# Altium integrated library ST Microcontroller 8-Bit.IntLib: 1326 symbols (part 39 of 45)
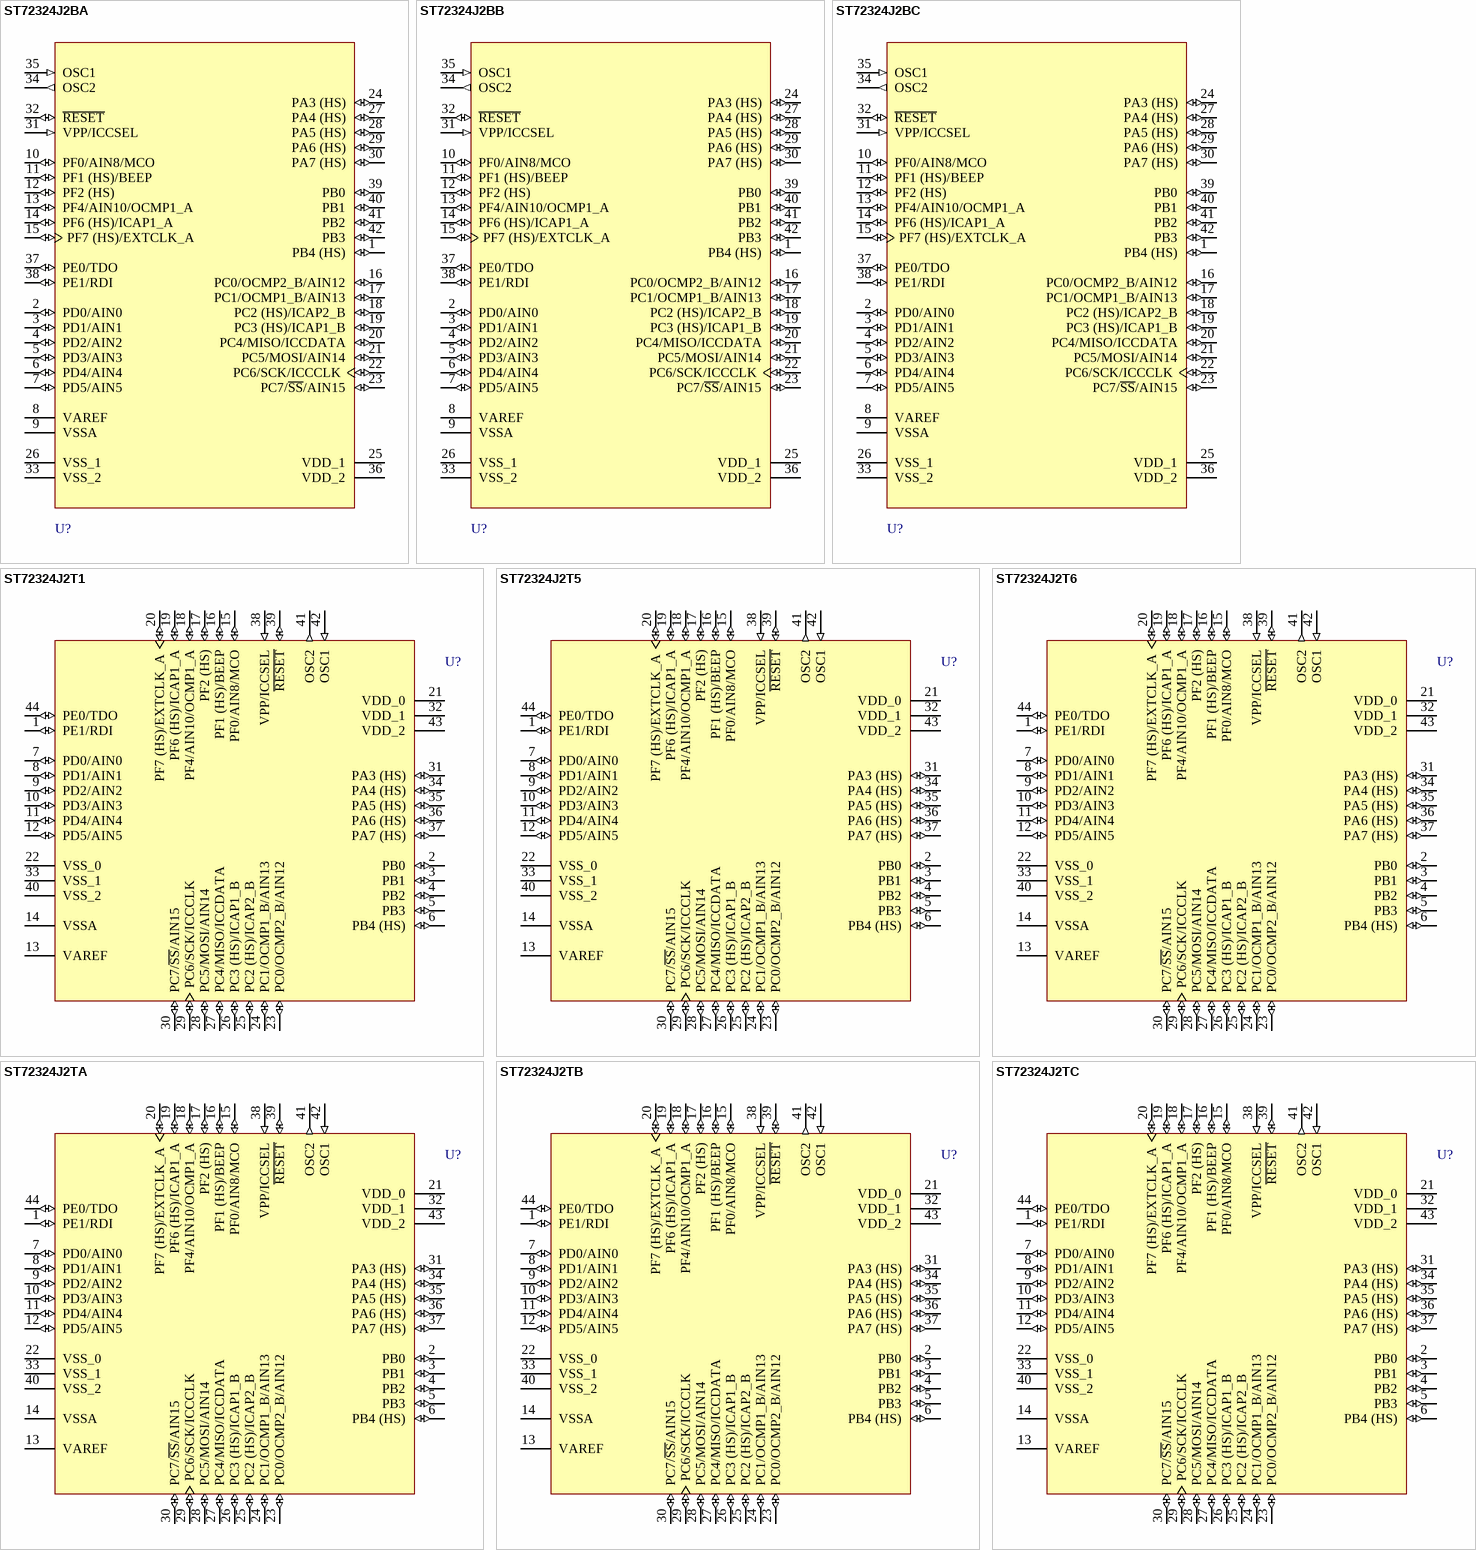
[diagram p205: symbols ST72324J2BA to ST72324J2TC]

## ST72324J2T6
designator U?
8-Bit 8k ROM MCU with Nested Interrupts, 384b RAM, 10-Bit ADC, Four Timers, SPI and SCI Interfaces, 44-Pin TQFP, Standard; Note: Pins 2-6, 15-17 and 31 are External Interrupt (EI) pins.; Published: 26-May-2004; LatestRevisionDate: 13-Apr-2006; LatestRevisionNote: IPC-7351 Footprint Added.; DatasheetVersion: rev1.9, Aug-2003; PackageVersion: Oct-2003; PackageReference: TQFP44; Publisher: Altium Limited; PackageDescription: 44-Pin Thin Plastic Quad Flat Pack 0.8 mm Pitch; ComponentLink1Description: Manufacturer Link; ComponentLink1URL: http://www.st.com/; ComponentLink2Description: Datasheet; ComponentLink2URL: http://www.st.com/stonline/products/literature/ds/8336/st72324.pdf
footprint TQFP44_N (Thin QFP, 44-Leads, Body 10x10mm, Pitch 0.8mm, IPC Medium Density)
footprint TQFP44_L (Thin QFP, 44-Leads, Body 10x10mm, Pitch 0.8mm, IPC High Density)
footprint TQFP44_M (Thin QFP, 44-Leads, Body 10x10mm, Pitch 0.8mm, IPC Low Density)
3D model ST72324-TQFP44 (44-Pin Thin Plastic Quad Flat Pack 0.8 mm Pitch)
pins: 1 PE1/RDI (io), 2 PB0 (io), 3 PB1 (io), 4 PB2 (io), 5 PB3 (io), 6 PB4 (HS) (io), 7 PD0/AIN0 (io), 8 PD1/AIN1 (io), 9 PD2/AIN2 (io), 10 PD3/AIN3 (io), 11 PD4/AIN4 (io), 12 PD5/AIN5 (io), 13 VAREF (power), 14 VSSA (power), 15 PF0/AIN8/MCO (io), 16 PF1 (HS)/BEEP (io), 17 PF2 (HS) (io), 18 PF4/AIN10/OCMP1_A (io), 19 PF6 (HS)/ICAP1_A (io), 20 PF7 (HS)/EXTCLK_A (io), 21 VDD_0 (power), 22 VSS_0 (power), 23 PC0/OCMP2_B/AIN12 (io), 24 PC1/OCMP1_B/AIN13 (io), 25 PC2 (HS)/ICAP2_B (io), 26 PC3 (HS)/ICAP1_B (io), 27 PC4/MISO/ICCDATA (io), 28 PC5/MOSI/AIN14 (io), 29 PC6/SCK/ICCCLK (io), 30 PC7/~{SS}/AIN15 (io), 31 PA3 (HS) (io), 32 VDD_1 (power), 33 VSS_1 (power), 34 PA4 (HS) (io), 35 PA5 (HS) (io), 36 PA6 (HS) (io), 37 PA7 (HS) (io), 38 VPP/ICCSEL (in), 39 ~{RESET} (io), 40 VSS_2 (power), 41 OSC2 (out), 42 OSC1 (in), 43 VDD_2 (power), 44 PE0/TDO (io)

## ST72324J2TA
designator U?
8-Bit 8k ROM MCU with Nested Interrupts, 384b RAM, 10-Bit ADC, Four Timers, SPI and SCI Interfaces, 44-Pin TQFP, Automotive; Note: Pins 2-6, 15-17 and 31 are External Interrupt (EI) pins.; Published: 26-May-2004; LatestRevisionDate: 13-Apr-2006; LatestRevisionNote: IPC-7351 Footprint Added.; DatasheetVersion: rev1.9, Aug-2003; PackageVersion: Oct-2003; PackageReference: TQFP44; Publisher: Altium Limited; PackageDescription: 44-Pin Thin Plastic Quad Flat Pack 0.8 mm Pitch; ComponentLink1Description: Manufacturer Link; ComponentLink1URL: http://www.st.com/; ComponentLink2Description: Datasheet; ComponentLink2URL: http://www.st.com/stonline/products/literature/ds/8336/st72324.pdf
footprint TQFP44_N (Thin QFP, 44-Leads, Body 10x10mm, Pitch 0.8mm, IPC Medium Density)
footprint TQFP44_L (Thin QFP, 44-Leads, Body 10x10mm, Pitch 0.8mm, IPC High Density)
footprint TQFP44_M (Thin QFP, 44-Leads, Body 10x10mm, Pitch 0.8mm, IPC Low Density)
3D model ST72324-TQFP44 (44-Pin Thin Plastic Quad Flat Pack 0.8 mm Pitch)
pins: 1 PE1/RDI (io), 2 PB0 (io), 3 PB1 (io), 4 PB2 (io), 5 PB3 (io), 6 PB4 (HS) (io), 7 PD0/AIN0 (io), 8 PD1/AIN1 (io), 9 PD2/AIN2 (io), 10 PD3/AIN3 (io), 11 PD4/AIN4 (io), 12 PD5/AIN5 (io), 13 VAREF (power), 14 VSSA (power), 15 PF0/AIN8/MCO (io), 16 PF1 (HS)/BEEP (io), 17 PF2 (HS) (io), 18 PF4/AIN10/OCMP1_A (io), 19 PF6 (HS)/ICAP1_A (io), 20 PF7 (HS)/EXTCLK_A (io), 21 VDD_0 (power), 22 VSS_0 (power), 23 PC0/OCMP2_B/AIN12 (io), 24 PC1/OCMP1_B/AIN13 (io), 25 PC2 (HS)/ICAP2_B (io), 26 PC3 (HS)/ICAP1_B (io), 27 PC4/MISO/ICCDATA (io), 28 PC5/MOSI/AIN14 (io), 29 PC6/SCK/ICCCLK (io), 30 PC7/~{SS}/AIN15 (io), 31 PA3 (HS) (io), 32 VDD_1 (power), 33 VSS_1 (power), 34 PA4 (HS) (io), 35 PA5 (HS) (io), 36 PA6 (HS) (io), 37 PA7 (HS) (io), 38 VPP/ICCSEL (in), 39 ~{RESET} (io), 40 VSS_2 (power), 41 OSC2 (out), 42 OSC1 (in), 43 VDD_2 (power), 44 PE0/TDO (io)

## ST72324J2TB
designator U?
8-Bit 8k ROM MCU with Nested Interrupts, 384b RAM, 10-Bit ADC, Four Timers, SPI and SCI Interfaces, 44-Pin TQFP, Automotive; Note: Pins 2-6, 15-17 and 31 are External Interrupt (EI) pins.; Published: 26-May-2004; LatestRevisionDate: 13-Apr-2006; LatestRevisionNote: IPC-7351 Footprint Added.; DatasheetVersion: rev1.9, Aug-2003; PackageVersion: Oct-2003; PackageReference: TQFP44; Publisher: Altium Limited; PackageDescription: 44-Pin Thin Plastic Quad Flat Pack 0.8 mm Pitch; ComponentLink1Description: Manufacturer Link; ComponentLink1URL: http://www.st.com/; ComponentLink2Description: Datasheet; ComponentLink2URL: http://www.st.com/stonline/products/literature/ds/8336/st72324.pdf
footprint TQFP44_N (Thin QFP, 44-Leads, Body 10x10mm, Pitch 0.8mm, IPC Medium Density)
footprint TQFP44_L (Thin QFP, 44-Leads, Body 10x10mm, Pitch 0.8mm, IPC High Density)
footprint TQFP44_M (Thin QFP, 44-Leads, Body 10x10mm, Pitch 0.8mm, IPC Low Density)
3D model ST72324-TQFP44 (44-Pin Thin Plastic Quad Flat Pack 0.8 mm Pitch)
pins: 1 PE1/RDI (io), 2 PB0 (io), 3 PB1 (io), 4 PB2 (io), 5 PB3 (io), 6 PB4 (HS) (io), 7 PD0/AIN0 (io), 8 PD1/AIN1 (io), 9 PD2/AIN2 (io), 10 PD3/AIN3 (io), 11 PD4/AIN4 (io), 12 PD5/AIN5 (io), 13 VAREF (power), 14 VSSA (power), 15 PF0/AIN8/MCO (io), 16 PF1 (HS)/BEEP (io), 17 PF2 (HS) (io), 18 PF4/AIN10/OCMP1_A (io), 19 PF6 (HS)/ICAP1_A (io), 20 PF7 (HS)/EXTCLK_A (io), 21 VDD_0 (power), 22 VSS_0 (power), 23 PC0/OCMP2_B/AIN12 (io), 24 PC1/OCMP1_B/AIN13 (io), 25 PC2 (HS)/ICAP2_B (io), 26 PC3 (HS)/ICAP1_B (io), 27 PC4/MISO/ICCDATA (io), 28 PC5/MOSI/AIN14 (io), 29 PC6/SCK/ICCCLK (io), 30 PC7/~{SS}/AIN15 (io), 31 PA3 (HS) (io), 32 VDD_1 (power), 33 VSS_1 (power), 34 PA4 (HS) (io), 35 PA5 (HS) (io), 36 PA6 (HS) (io), 37 PA7 (HS) (io), 38 VPP/ICCSEL (in), 39 ~{RESET} (io), 40 VSS_2 (power), 41 OSC2 (out), 42 OSC1 (in), 43 VDD_2 (power), 44 PE0/TDO (io)

## ST72324J2TC
designator U?
8-Bit 8k ROM MCU with Nested Interrupts, 384b RAM, 10-Bit ADC, Four Timers, SPI and SCI Interfaces, 44-Pin TQFP, Automotive; Note: Pins 2-6, 15-17 and 31 are External Interrupt (EI) pins.; Published: 26-May-2004; LatestRevisionDate: 13-Apr-2006; LatestRevisionNote: IPC-7351 Footprint Added.; DatasheetVersion: rev1.9, Aug-2003; PackageVersion: Oct-2003; PackageReference: TQFP44; Publisher: Altium Limited; PackageDescription: 44-Pin Thin Plastic Quad Flat Pack 0.8 mm Pitch; ComponentLink1Description: Manufacturer Link; ComponentLink1URL: http://www.st.com/; ComponentLink2Description: Datasheet; ComponentLink2URL: http://www.st.com/stonline/products/literature/ds/8336/st72324.pdf
footprint TQFP44_N (Thin QFP, 44-Leads, Body 10x10mm, Pitch 0.8mm, IPC Medium Density)
footprint TQFP44_L (Thin QFP, 44-Leads, Body 10x10mm, Pitch 0.8mm, IPC High Density)
footprint TQFP44_M (Thin QFP, 44-Leads, Body 10x10mm, Pitch 0.8mm, IPC Low Density)
3D model ST72324-TQFP44 (44-Pin Thin Plastic Quad Flat Pack 0.8 mm Pitch)
pins: 1 PE1/RDI (io), 2 PB0 (io), 3 PB1 (io), 4 PB2 (io), 5 PB3 (io), 6 PB4 (HS) (io), 7 PD0/AIN0 (io), 8 PD1/AIN1 (io), 9 PD2/AIN2 (io), 10 PD3/AIN3 (io), 11 PD4/AIN4 (io), 12 PD5/AIN5 (io), 13 VAREF (power), 14 VSSA (power), 15 PF0/AIN8/MCO (io), 16 PF1 (HS)/BEEP (io), 17 PF2 (HS) (io), 18 PF4/AIN10/OCMP1_A (io), 19 PF6 (HS)/ICAP1_A (io), 20 PF7 (HS)/EXTCLK_A (io), 21 VDD_0 (power), 22 VSS_0 (power), 23 PC0/OCMP2_B/AIN12 (io), 24 PC1/OCMP1_B/AIN13 (io), 25 PC2 (HS)/ICAP2_B (io), 26 PC3 (HS)/ICAP1_B (io), 27 PC4/MISO/ICCDATA (io), 28 PC5/MOSI/AIN14 (io), 29 PC6/SCK/ICCCLK (io), 30 PC7/~{SS}/AIN15 (io), 31 PA3 (HS) (io), 32 VDD_1 (power), 33 VSS_1 (power), 34 PA4 (HS) (io), 35 PA5 (HS) (io), 36 PA6 (HS) (io), 37 PA7 (HS) (io), 38 VPP/ICCSEL (in), 39 ~{RESET} (io), 40 VSS_2 (power), 41 OSC2 (out), 42 OSC1 (in), 43 VDD_2 (power), 44 PE0/TDO (io)

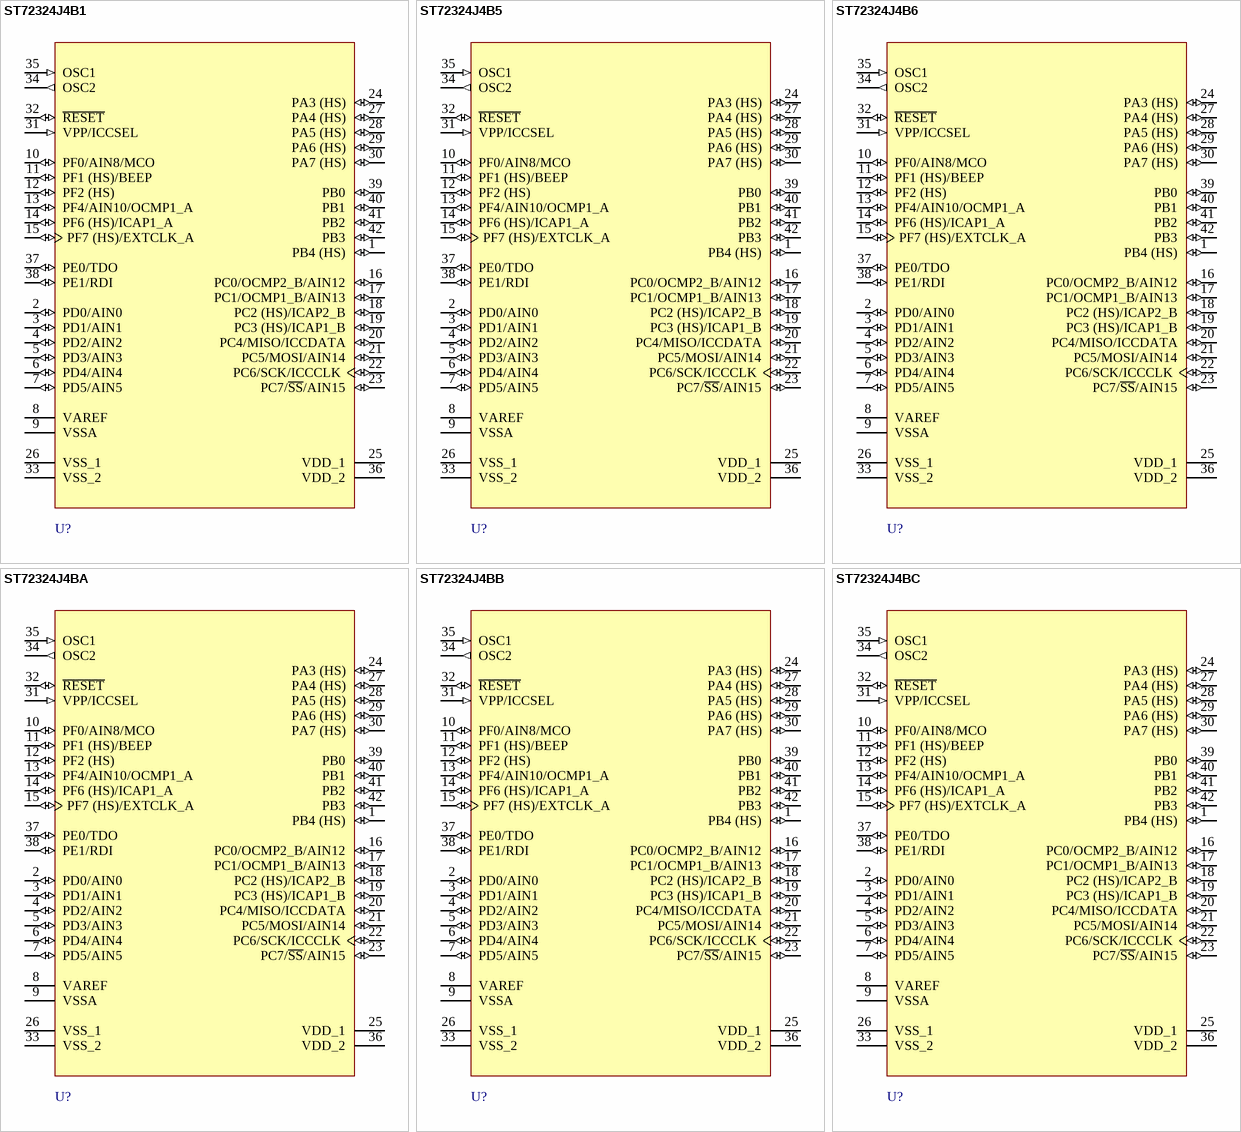
[diagram p137: symbols ST72324J4B1 to ST72324J4BC]

## ST72324J4B1
designator U?
8-Bit 16k ROM MCU with Nested Interrupts, 512b RAM, 10-Bit ADC, Four Timers, SPI and SCI Interfaces, 42-Pin PDIP, Standard; Note: Pins 1, 10-12, 24 and 39-42 are External Interrupt (EI) pins.; Published: 26-May-2004; LatestRevisionDate: 06-Jun-2005; LatestRevisionNote: Stylized 3D Model Added.; DatasheetVersion: rev1.9, Aug-2003; PackageVersion: Oct-2003; PackageReference: PSDIP42; Publisher: Altium Limited; PackageDescription: DIP, Plastic Shrink; 42 Leads; Row Spacing 15.24 mm; Pitch 1.78 mm; ComponentLink1Description: Manufacturer Link; ComponentLink1URL: http://www.st.com/; ComponentLink2Description: Datasheet; ComponentLink2URL: http://www.st.com/stonline/products/literature/ds/8336/st72324.pdf
footprint PSDIP42 (DIP, Plastic Shrink; 42 Leads; Row Spacing 15.24 mm; Pitch 1.78 mm)
3D model PSDIP42 (DIP, Plastic Shrink; 42 Leads; Row Spacing 15.24 mm; Pitch 1.78 mm)
pins: 1 PB4 (HS) (io), 2 PD0/AIN0 (io), 3 PD1/AIN1 (io), 4 PD2/AIN2 (io), 5 PD3/AIN3 (io), 6 PD4/AIN4 (io), 7 PD5/AIN5 (io), 8 VAREF (power), 9 VSSA (power), 10 PF0/AIN8/MCO (io), 11 PF1 (HS)/BEEP (io), 12 PF2 (HS) (io), 13 PF4/AIN10/OCMP1_A (io), 14 PF6 (HS)/ICAP1_A (io), 15 PF7 (HS)/EXTCLK_A (io), 16 PC0/OCMP2_B/AIN12 (io), 17 PC1/OCMP1_B/AIN13 (io), 18 PC2 (HS)/ICAP2_B (io), 19 PC3 (HS)/ICAP1_B (io), 20 PC4/MISO/ICCDATA (io), 21 PC5/MOSI/AIN14 (io), 22 PC6/SCK/ICCCLK (io), 23 PC7/~{SS}/AIN15 (io), 24 PA3 (HS) (io), 25 VDD_1 (power), 26 VSS_1 (power), 27 PA4 (HS) (io), 28 PA5 (HS) (io), 29 PA6 (HS) (io), 30 PA7 (HS) (io), 31 VPP/ICCSEL (in), 32 ~{RESET} (io), 33 VSS_2 (power), 34 OSC2 (out), 35 OSC1 (in), 36 VDD_2 (power), 37 PE0/TDO (io), 38 PE1/RDI (io), 39 PB0 (io), 40 PB1 (io), 41 PB2 (io), 42 PB3 (io)

## ST72324J4B5
designator U?
8-Bit 16k ROM MCU with Nested Interrupts, 512b RAM, 10-Bit ADC, Four Timers, SPI and SCI Interfaces, 42-Pin PDIP, Standard; Note: Pins 1, 10-12, 24 and 39-42 are External Interrupt (EI) pins.; Published: 26-May-2004; LatestRevisionDate: 06-Jun-2005; LatestRevisionNote: Stylized 3D Model Added.; DatasheetVersion: rev1.9, Aug-2003; PackageVersion: Oct-2003; PackageReference: PSDIP42; Publisher: Altium Limited; PackageDescription: DIP, Plastic Shrink; 42 Leads; Row Spacing 15.24 mm; Pitch 1.78 mm; ComponentLink1Description: Manufacturer Link; ComponentLink1URL: http://www.st.com/; ComponentLink2Description: Datasheet; ComponentLink2URL: http://www.st.com/stonline/products/literature/ds/8336/st72324.pdf
footprint PSDIP42 (DIP, Plastic Shrink; 42 Leads; Row Spacing 15.24 mm; Pitch 1.78 mm)
3D model PSDIP42 (DIP, Plastic Shrink; 42 Leads; Row Spacing 15.24 mm; Pitch 1.78 mm)
pins: 1 PB4 (HS) (io), 2 PD0/AIN0 (io), 3 PD1/AIN1 (io), 4 PD2/AIN2 (io), 5 PD3/AIN3 (io), 6 PD4/AIN4 (io), 7 PD5/AIN5 (io), 8 VAREF (power), 9 VSSA (power), 10 PF0/AIN8/MCO (io), 11 PF1 (HS)/BEEP (io), 12 PF2 (HS) (io), 13 PF4/AIN10/OCMP1_A (io), 14 PF6 (HS)/ICAP1_A (io), 15 PF7 (HS)/EXTCLK_A (io), 16 PC0/OCMP2_B/AIN12 (io), 17 PC1/OCMP1_B/AIN13 (io), 18 PC2 (HS)/ICAP2_B (io), 19 PC3 (HS)/ICAP1_B (io), 20 PC4/MISO/ICCDATA (io), 21 PC5/MOSI/AIN14 (io), 22 PC6/SCK/ICCCLK (io), 23 PC7/~{SS}/AIN15 (io), 24 PA3 (HS) (io), 25 VDD_1 (power), 26 VSS_1 (power), 27 PA4 (HS) (io), 28 PA5 (HS) (io), 29 PA6 (HS) (io), 30 PA7 (HS) (io), 31 VPP/ICCSEL (in), 32 ~{RESET} (io), 33 VSS_2 (power), 34 OSC2 (out), 35 OSC1 (in), 36 VDD_2 (power), 37 PE0/TDO (io), 38 PE1/RDI (io), 39 PB0 (io), 40 PB1 (io), 41 PB2 (io), 42 PB3 (io)

## ST72324J4B6
designator U?
8-Bit 16k ROM MCU with Nested Interrupts, 512b RAM, 10-Bit ADC, Four Timers, SPI and SCI Interfaces, 42-Pin PDIP, Standard; Note: Pins 1, 10-12, 24 and 39-42 are External Interrupt (EI) pins.; Published: 26-May-2004; LatestRevisionDate: 06-Jun-2005; LatestRevisionNote: Stylized 3D Model Added.; DatasheetVersion: rev1.9, Aug-2003; PackageVersion: Oct-2003; PackageReference: PSDIP42; Publisher: Altium Limited; PackageDescription: DIP, Plastic Shrink; 42 Leads; Row Spacing 15.24 mm; Pitch 1.78 mm; ComponentLink1Description: Manufacturer Link; ComponentLink1URL: http://www.st.com/; ComponentLink2Description: Datasheet; ComponentLink2URL: http://www.st.com/stonline/products/literature/ds/8336/st72324.pdf
footprint PSDIP42 (DIP, Plastic Shrink; 42 Leads; Row Spacing 15.24 mm; Pitch 1.78 mm)
3D model PSDIP42 (DIP, Plastic Shrink; 42 Leads; Row Spacing 15.24 mm; Pitch 1.78 mm)
pins: 1 PB4 (HS) (io), 2 PD0/AIN0 (io), 3 PD1/AIN1 (io), 4 PD2/AIN2 (io), 5 PD3/AIN3 (io), 6 PD4/AIN4 (io), 7 PD5/AIN5 (io), 8 VAREF (power), 9 VSSA (power), 10 PF0/AIN8/MCO (io), 11 PF1 (HS)/BEEP (io), 12 PF2 (HS) (io), 13 PF4/AIN10/OCMP1_A (io), 14 PF6 (HS)/ICAP1_A (io), 15 PF7 (HS)/EXTCLK_A (io), 16 PC0/OCMP2_B/AIN12 (io), 17 PC1/OCMP1_B/AIN13 (io), 18 PC2 (HS)/ICAP2_B (io), 19 PC3 (HS)/ICAP1_B (io), 20 PC4/MISO/ICCDATA (io), 21 PC5/MOSI/AIN14 (io), 22 PC6/SCK/ICCCLK (io), 23 PC7/~{SS}/AIN15 (io), 24 PA3 (HS) (io), 25 VDD_1 (power), 26 VSS_1 (power), 27 PA4 (HS) (io), 28 PA5 (HS) (io), 29 PA6 (HS) (io), 30 PA7 (HS) (io), 31 VPP/ICCSEL (in), 32 ~{RESET} (io), 33 VSS_2 (power), 34 OSC2 (out), 35 OSC1 (in), 36 VDD_2 (power), 37 PE0/TDO (io), 38 PE1/RDI (io), 39 PB0 (io), 40 PB1 (io), 41 PB2 (io), 42 PB3 (io)

## ST72324J4BA
designator U?
8-Bit 16k ROM MCU with Nested Interrupts, 512b RAM, 10-Bit ADC, Four Timers, SPI and SCI Interfaces, 42-Pin PDIP, Automotive; Note: Pins 1, 10-12, 24 and 39-42 are External Interrupt (EI) pins.; Published: 26-May-2004; LatestRevisionDate: 06-Jun-2005; LatestRevisionNote: Stylized 3D Model Added.; DatasheetVersion: rev1.9, Aug-2003; PackageVersion: Oct-2003; PackageReference: PSDIP42; Publisher: Altium Limited; PackageDescription: DIP, Plastic Shrink; 42 Leads; Row Spacing 15.24 mm; Pitch 1.78 mm; ComponentLink1Description: Manufacturer Link; ComponentLink1URL: http://www.st.com/; ComponentLink2Description: Datasheet; ComponentLink2URL: http://www.st.com/stonline/products/literature/ds/8336/st72324.pdf
footprint PSDIP42 (DIP, Plastic Shrink; 42 Leads; Row Spacing 15.24 mm; Pitch 1.78 mm)
3D model PSDIP42 (DIP, Plastic Shrink; 42 Leads; Row Spacing 15.24 mm; Pitch 1.78 mm)
pins: 1 PB4 (HS) (io), 2 PD0/AIN0 (io), 3 PD1/AIN1 (io), 4 PD2/AIN2 (io), 5 PD3/AIN3 (io), 6 PD4/AIN4 (io), 7 PD5/AIN5 (io), 8 VAREF (power), 9 VSSA (power), 10 PF0/AIN8/MCO (io), 11 PF1 (HS)/BEEP (io), 12 PF2 (HS) (io), 13 PF4/AIN10/OCMP1_A (io), 14 PF6 (HS)/ICAP1_A (io), 15 PF7 (HS)/EXTCLK_A (io), 16 PC0/OCMP2_B/AIN12 (io), 17 PC1/OCMP1_B/AIN13 (io), 18 PC2 (HS)/ICAP2_B (io), 19 PC3 (HS)/ICAP1_B (io), 20 PC4/MISO/ICCDATA (io), 21 PC5/MOSI/AIN14 (io), 22 PC6/SCK/ICCCLK (io), 23 PC7/~{SS}/AIN15 (io), 24 PA3 (HS) (io), 25 VDD_1 (power), 26 VSS_1 (power), 27 PA4 (HS) (io), 28 PA5 (HS) (io), 29 PA6 (HS) (io), 30 PA7 (HS) (io), 31 VPP/ICCSEL (in), 32 ~{RESET} (io), 33 VSS_2 (power), 34 OSC2 (out), 35 OSC1 (in), 36 VDD_2 (power), 37 PE0/TDO (io), 38 PE1/RDI (io), 39 PB0 (io), 40 PB1 (io), 41 PB2 (io), 42 PB3 (io)

## ST72324J4BB
designator U?
8-Bit 16k ROM MCU with Nested Interrupts, 512b RAM, 10-Bit ADC, Four Timers, SPI and SCI Interfaces, 42-Pin PDIP, Automotive; Note: Pins 1, 10-12, 24 and 39-42 are External Interrupt (EI) pins.; Published: 26-May-2004; LatestRevisionDate: 06-Jun-2005; LatestRevisionNote: Stylized 3D Model Added.; DatasheetVersion: rev1.9, Aug-2003; PackageVersion: Oct-2003; PackageReference: PSDIP42; Publisher: Altium Limited; PackageDescription: DIP, Plastic Shrink; 42 Leads; Row Spacing 15.24 mm; Pitch 1.78 mm; ComponentLink1Description: Manufacturer Link; ComponentLink1URL: http://www.st.com/; ComponentLink2Description: Datasheet; ComponentLink2URL: http://www.st.com/stonline/products/literature/ds/8336/st72324.pdf
footprint PSDIP42 (DIP, Plastic Shrink; 42 Leads; Row Spacing 15.24 mm; Pitch 1.78 mm)
3D model PSDIP42 (DIP, Plastic Shrink; 42 Leads; Row Spacing 15.24 mm; Pitch 1.78 mm)
pins: 1 PB4 (HS) (io), 2 PD0/AIN0 (io), 3 PD1/AIN1 (io), 4 PD2/AIN2 (io), 5 PD3/AIN3 (io), 6 PD4/AIN4 (io), 7 PD5/AIN5 (io), 8 VAREF (power), 9 VSSA (power), 10 PF0/AIN8/MCO (io), 11 PF1 (HS)/BEEP (io), 12 PF2 (HS) (io), 13 PF4/AIN10/OCMP1_A (io), 14 PF6 (HS)/ICAP1_A (io), 15 PF7 (HS)/EXTCLK_A (io), 16 PC0/OCMP2_B/AIN12 (io), 17 PC1/OCMP1_B/AIN13 (io), 18 PC2 (HS)/ICAP2_B (io), 19 PC3 (HS)/ICAP1_B (io), 20 PC4/MISO/ICCDATA (io), 21 PC5/MOSI/AIN14 (io), 22 PC6/SCK/ICCCLK (io), 23 PC7/~{SS}/AIN15 (io), 24 PA3 (HS) (io), 25 VDD_1 (power), 26 VSS_1 (power), 27 PA4 (HS) (io), 28 PA5 (HS) (io), 29 PA6 (HS) (io), 30 PA7 (HS) (io), 31 VPP/ICCSEL (in), 32 ~{RESET} (io), 33 VSS_2 (power), 34 OSC2 (out), 35 OSC1 (in), 36 VDD_2 (power), 37 PE0/TDO (io), 38 PE1/RDI (io), 39 PB0 (io), 40 PB1 (io), 41 PB2 (io), 42 PB3 (io)

## ST72324J4BC
designator U?
8-Bit 16k ROM MCU with Nested Interrupts, 512b RAM, 10-Bit ADC, Four Timers, SPI and SCI Interfaces, 42-Pin PDIP, Automotive; Note: Pins 1, 10-12, 24 and 39-42 are External Interrupt (EI) pins.; Published: 26-May-2004; LatestRevisionDate: 06-Jun-2005; LatestRevisionNote: Stylized 3D Model Added.; DatasheetVersion: rev1.9, Aug-2003; PackageVersion: Oct-2003; PackageReference: PSDIP42; Publisher: Altium Limited; PackageDescription: DIP, Plastic Shrink; 42 Leads; Row Spacing 15.24 mm; Pitch 1.78 mm; ComponentLink1Description: Manufacturer Link; ComponentLink1URL: http://www.st.com/; ComponentLink2Description: Datasheet; ComponentLink2URL: http://www.st.com/stonline/products/literature/ds/8336/st72324.pdf
footprint PSDIP42 (DIP, Plastic Shrink; 42 Leads; Row Spacing 15.24 mm; Pitch 1.78 mm)
3D model PSDIP42 (DIP, Plastic Shrink; 42 Leads; Row Spacing 15.24 mm; Pitch 1.78 mm)
pins: 1 PB4 (HS) (io), 2 PD0/AIN0 (io), 3 PD1/AIN1 (io), 4 PD2/AIN2 (io), 5 PD3/AIN3 (io), 6 PD4/AIN4 (io), 7 PD5/AIN5 (io), 8 VAREF (power), 9 VSSA (power), 10 PF0/AIN8/MCO (io), 11 PF1 (HS)/BEEP (io), 12 PF2 (HS) (io), 13 PF4/AIN10/OCMP1_A (io), 14 PF6 (HS)/ICAP1_A (io), 15 PF7 (HS)/EXTCLK_A (io), 16 PC0/OCMP2_B/AIN12 (io), 17 PC1/OCMP1_B/AIN13 (io), 18 PC2 (HS)/ICAP2_B (io), 19 PC3 (HS)/ICAP1_B (io), 20 PC4/MISO/ICCDATA (io), 21 PC5/MOSI/AIN14 (io), 22 PC6/SCK/ICCCLK (io), 23 PC7/~{SS}/AIN15 (io), 24 PA3 (HS) (io), 25 VDD_1 (power), 26 VSS_1 (power), 27 PA4 (HS) (io), 28 PA5 (HS) (io), 29 PA6 (HS) (io), 30 PA7 (HS) (io), 31 VPP/ICCSEL (in), 32 ~{RESET} (io), 33 VSS_2 (power), 34 OSC2 (out), 35 OSC1 (in), 36 VDD_2 (power), 37 PE0/TDO (io), 38 PE1/RDI (io), 39 PB0 (io), 40 PB1 (io), 41 PB2 (io), 42 PB3 (io)

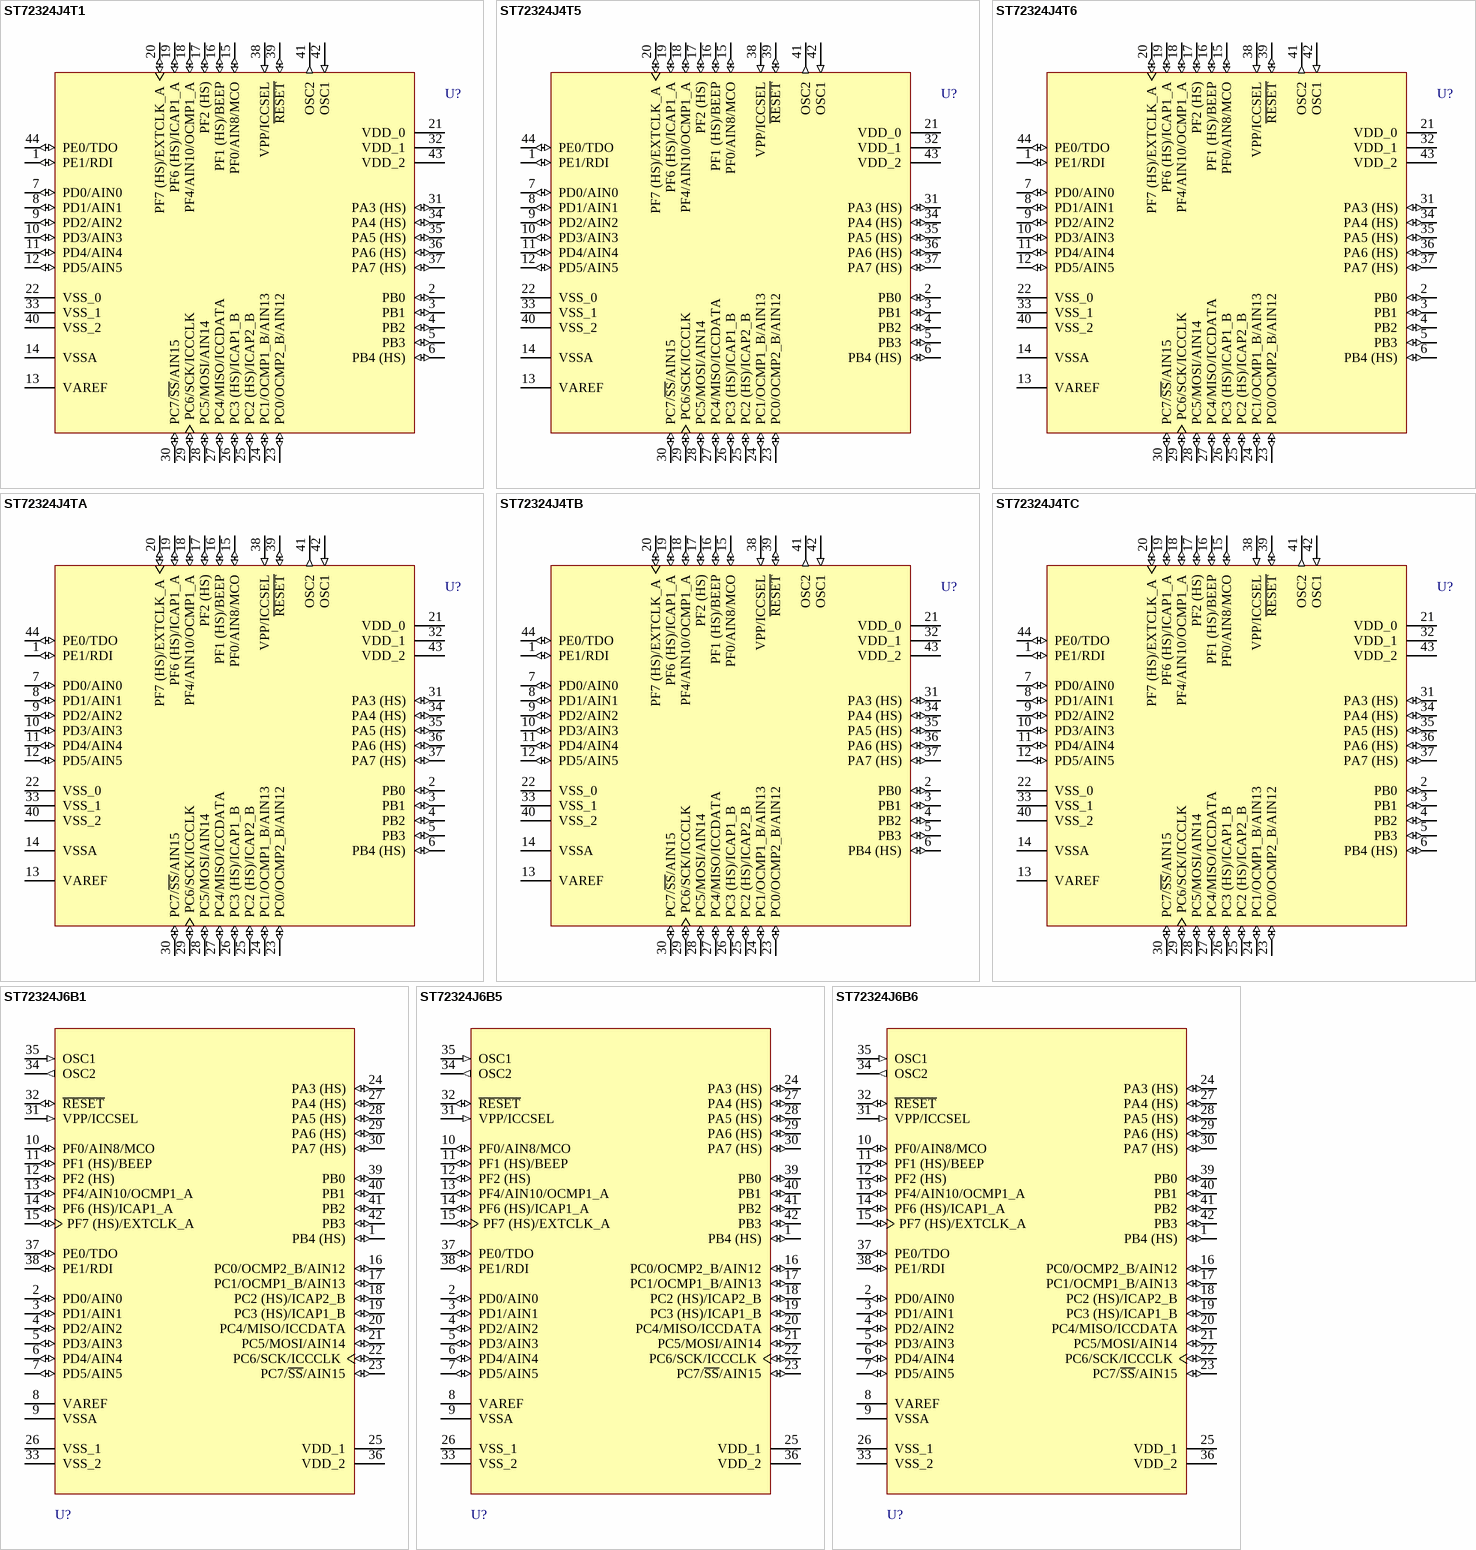
[diagram p138: symbols ST72324J4T1 to ST72324J6B6]

## ST72324J4T1
designator U?
8-Bit 16k ROM MCU with Nested Interrupts, 512b RAM, 10-Bit ADC, Four Timers, SPI and SCI Interfaces, 44-Pin TQFP, Standard; Note: Pins 2-6, 15-17 and 31 are External Interrupt (EI) pins.; Published: 26-May-2004; LatestRevisionDate: 13-Apr-2006; LatestRevisionNote: IPC-7351 Footprint Added.; DatasheetVersion: rev1.9, Aug-2003; PackageVersion: Oct-2003; PackageReference: TQFP44; Publisher: Altium Limited; PackageDescription: 44-Pin Thin Plastic Quad Flat Pack 0.8 mm Pitch; ComponentLink1Description: Manufacturer Link; ComponentLink1URL: http://www.st.com/; ComponentLink2Description: Datasheet; ComponentLink2URL: http://www.st.com/stonline/products/literature/ds/8336/st72324.pdf
footprint TQFP44_N (Thin QFP, 44-Leads, Body 10x10mm, Pitch 0.8mm, IPC Medium Density)
footprint TQFP44_L (Thin QFP, 44-Leads, Body 10x10mm, Pitch 0.8mm, IPC High Density)
footprint TQFP44_M (Thin QFP, 44-Leads, Body 10x10mm, Pitch 0.8mm, IPC Low Density)
3D model ST72324-TQFP44 (44-Pin Thin Plastic Quad Flat Pack 0.8 mm Pitch)
pins: 1 PE1/RDI (io), 2 PB0 (io), 3 PB1 (io), 4 PB2 (io), 5 PB3 (io), 6 PB4 (HS) (io), 7 PD0/AIN0 (io), 8 PD1/AIN1 (io), 9 PD2/AIN2 (io), 10 PD3/AIN3 (io), 11 PD4/AIN4 (io), 12 PD5/AIN5 (io), 13 VAREF (power), 14 VSSA (power), 15 PF0/AIN8/MCO (io), 16 PF1 (HS)/BEEP (io), 17 PF2 (HS) (io), 18 PF4/AIN10/OCMP1_A (io), 19 PF6 (HS)/ICAP1_A (io), 20 PF7 (HS)/EXTCLK_A (io), 21 VDD_0 (power), 22 VSS_0 (power), 23 PC0/OCMP2_B/AIN12 (io), 24 PC1/OCMP1_B/AIN13 (io), 25 PC2 (HS)/ICAP2_B (io), 26 PC3 (HS)/ICAP1_B (io), 27 PC4/MISO/ICCDATA (io), 28 PC5/MOSI/AIN14 (io), 29 PC6/SCK/ICCCLK (io), 30 PC7/~{SS}/AIN15 (io), 31 PA3 (HS) (io), 32 VDD_1 (power), 33 VSS_1 (power), 34 PA4 (HS) (io), 35 PA5 (HS) (io), 36 PA6 (HS) (io), 37 PA7 (HS) (io), 38 VPP/ICCSEL (in), 39 ~{RESET} (io), 40 VSS_2 (power), 41 OSC2 (out), 42 OSC1 (in), 43 VDD_2 (power), 44 PE0/TDO (io)

## ST72324J4T5
designator U?
8-Bit 16k ROM MCU with Nested Interrupts, 512b RAM, 10-Bit ADC, Four Timers, SPI and SCI Interfaces, 44-Pin TQFP, Standard; Note: Pins 2-6, 15-17 and 31 are External Interrupt (EI) pins.; Published: 26-May-2004; LatestRevisionDate: 13-Apr-2006; LatestRevisionNote: IPC-7351 Footprint Added.; DatasheetVersion: rev1.9, Aug-2003; PackageVersion: Oct-2003; PackageReference: TQFP44; Publisher: Altium Limited; PackageDescription: 44-Pin Thin Plastic Quad Flat Pack 0.8 mm Pitch; ComponentLink1Description: Manufacturer Link; ComponentLink1URL: http://www.st.com/; ComponentLink2Description: Datasheet; ComponentLink2URL: http://www.st.com/stonline/products/literature/ds/8336/st72324.pdf
footprint TQFP44_N (Thin QFP, 44-Leads, Body 10x10mm, Pitch 0.8mm, IPC Medium Density)
footprint TQFP44_L (Thin QFP, 44-Leads, Body 10x10mm, Pitch 0.8mm, IPC High Density)
footprint TQFP44_M (Thin QFP, 44-Leads, Body 10x10mm, Pitch 0.8mm, IPC Low Density)
3D model ST72324-TQFP44 (44-Pin Thin Plastic Quad Flat Pack 0.8 mm Pitch)
pins: 1 PE1/RDI (io), 2 PB0 (io), 3 PB1 (io), 4 PB2 (io), 5 PB3 (io), 6 PB4 (HS) (io), 7 PD0/AIN0 (io), 8 PD1/AIN1 (io), 9 PD2/AIN2 (io), 10 PD3/AIN3 (io), 11 PD4/AIN4 (io), 12 PD5/AIN5 (io), 13 VAREF (power), 14 VSSA (power), 15 PF0/AIN8/MCO (io), 16 PF1 (HS)/BEEP (io), 17 PF2 (HS) (io), 18 PF4/AIN10/OCMP1_A (io), 19 PF6 (HS)/ICAP1_A (io), 20 PF7 (HS)/EXTCLK_A (io), 21 VDD_0 (power), 22 VSS_0 (power), 23 PC0/OCMP2_B/AIN12 (io), 24 PC1/OCMP1_B/AIN13 (io), 25 PC2 (HS)/ICAP2_B (io), 26 PC3 (HS)/ICAP1_B (io), 27 PC4/MISO/ICCDATA (io), 28 PC5/MOSI/AIN14 (io), 29 PC6/SCK/ICCCLK (io), 30 PC7/~{SS}/AIN15 (io), 31 PA3 (HS) (io), 32 VDD_1 (power), 33 VSS_1 (power), 34 PA4 (HS) (io), 35 PA5 (HS) (io), 36 PA6 (HS) (io), 37 PA7 (HS) (io), 38 VPP/ICCSEL (in), 39 ~{RESET} (io), 40 VSS_2 (power), 41 OSC2 (out), 42 OSC1 (in), 43 VDD_2 (power), 44 PE0/TDO (io)

## ST72324J4T6
designator U?
8-Bit 16k ROM MCU with Nested Interrupts, 512b RAM, 10-Bit ADC, Four Timers, SPI and SCI Interfaces, 44-Pin TQFP, Standard; Note: Pins 2-6, 15-17 and 31 are External Interrupt (EI) pins.; Published: 26-May-2004; LatestRevisionDate: 13-Apr-2006; LatestRevisionNote: IPC-7351 Footprint Added.; DatasheetVersion: rev1.9, Aug-2003; PackageVersion: Oct-2003; PackageReference: TQFP44; Publisher: Altium Limited; PackageDescription: 44-Pin Thin Plastic Quad Flat Pack 0.8 mm Pitch; ComponentLink1Description: Manufacturer Link; ComponentLink1URL: http://www.st.com/; ComponentLink2Description: Datasheet; ComponentLink2URL: http://www.st.com/stonline/products/literature/ds/8336/st72324.pdf
footprint TQFP44_N (Thin QFP, 44-Leads, Body 10x10mm, Pitch 0.8mm, IPC Medium Density)
footprint TQFP44_L (Thin QFP, 44-Leads, Body 10x10mm, Pitch 0.8mm, IPC High Density)
footprint TQFP44_M (Thin QFP, 44-Leads, Body 10x10mm, Pitch 0.8mm, IPC Low Density)
3D model ST72324-TQFP44 (44-Pin Thin Plastic Quad Flat Pack 0.8 mm Pitch)
pins: 1 PE1/RDI (io), 2 PB0 (io), 3 PB1 (io), 4 PB2 (io), 5 PB3 (io), 6 PB4 (HS) (io), 7 PD0/AIN0 (io), 8 PD1/AIN1 (io), 9 PD2/AIN2 (io), 10 PD3/AIN3 (io), 11 PD4/AIN4 (io), 12 PD5/AIN5 (io), 13 VAREF (power), 14 VSSA (power), 15 PF0/AIN8/MCO (io), 16 PF1 (HS)/BEEP (io), 17 PF2 (HS) (io), 18 PF4/AIN10/OCMP1_A (io), 19 PF6 (HS)/ICAP1_A (io), 20 PF7 (HS)/EXTCLK_A (io), 21 VDD_0 (power), 22 VSS_0 (power), 23 PC0/OCMP2_B/AIN12 (io), 24 PC1/OCMP1_B/AIN13 (io), 25 PC2 (HS)/ICAP2_B (io), 26 PC3 (HS)/ICAP1_B (io), 27 PC4/MISO/ICCDATA (io), 28 PC5/MOSI/AIN14 (io), 29 PC6/SCK/ICCCLK (io), 30 PC7/~{SS}/AIN15 (io), 31 PA3 (HS) (io), 32 VDD_1 (power), 33 VSS_1 (power), 34 PA4 (HS) (io), 35 PA5 (HS) (io), 36 PA6 (HS) (io), 37 PA7 (HS) (io), 38 VPP/ICCSEL (in), 39 ~{RESET} (io), 40 VSS_2 (power), 41 OSC2 (out), 42 OSC1 (in), 43 VDD_2 (power), 44 PE0/TDO (io)

## ST72324J4TA
designator U?
8-Bit 16k ROM MCU with Nested Interrupts, 512b RAM, 10-Bit ADC, Four Timers, SPI and SCI Interfaces, 44-Pin TQFP, Automotive; Note: Pins 2-6, 15-17 and 31 are External Interrupt (EI) pins.; Published: 26-May-2004; LatestRevisionDate: 13-Apr-2006; LatestRevisionNote: IPC-7351 Footprint Added.; DatasheetVersion: rev1.9, Aug-2003; PackageVersion: Oct-2003; PackageReference: TQFP44; Publisher: Altium Limited; PackageDescription: 44-Pin Thin Plastic Quad Flat Pack 0.8 mm Pitch; ComponentLink1Description: Manufacturer Link; ComponentLink1URL: http://www.st.com/; ComponentLink2Description: Datasheet; ComponentLink2URL: http://www.st.com/stonline/products/literature/ds/8336/st72324.pdf
footprint TQFP44_N (Thin QFP, 44-Leads, Body 10x10mm, Pitch 0.8mm, IPC Medium Density)
footprint TQFP44_L (Thin QFP, 44-Leads, Body 10x10mm, Pitch 0.8mm, IPC High Density)
footprint TQFP44_M (Thin QFP, 44-Leads, Body 10x10mm, Pitch 0.8mm, IPC Low Density)
3D model ST72324-TQFP44 (44-Pin Thin Plastic Quad Flat Pack 0.8 mm Pitch)
pins: 1 PE1/RDI (io), 2 PB0 (io), 3 PB1 (io), 4 PB2 (io), 5 PB3 (io), 6 PB4 (HS) (io), 7 PD0/AIN0 (io), 8 PD1/AIN1 (io), 9 PD2/AIN2 (io), 10 PD3/AIN3 (io), 11 PD4/AIN4 (io), 12 PD5/AIN5 (io), 13 VAREF (power), 14 VSSA (power), 15 PF0/AIN8/MCO (io), 16 PF1 (HS)/BEEP (io), 17 PF2 (HS) (io), 18 PF4/AIN10/OCMP1_A (io), 19 PF6 (HS)/ICAP1_A (io), 20 PF7 (HS)/EXTCLK_A (io), 21 VDD_0 (power), 22 VSS_0 (power), 23 PC0/OCMP2_B/AIN12 (io), 24 PC1/OCMP1_B/AIN13 (io), 25 PC2 (HS)/ICAP2_B (io), 26 PC3 (HS)/ICAP1_B (io), 27 PC4/MISO/ICCDATA (io), 28 PC5/MOSI/AIN14 (io), 29 PC6/SCK/ICCCLK (io), 30 PC7/~{SS}/AIN15 (io), 31 PA3 (HS) (io), 32 VDD_1 (power), 33 VSS_1 (power), 34 PA4 (HS) (io), 35 PA5 (HS) (io), 36 PA6 (HS) (io), 37 PA7 (HS) (io), 38 VPP/ICCSEL (in), 39 ~{RESET} (io), 40 VSS_2 (power), 41 OSC2 (out), 42 OSC1 (in), 43 VDD_2 (power), 44 PE0/TDO (io)

## ST72324J4TB
designator U?
8-Bit 16k ROM MCU with Nested Interrupts, 512b RAM, 10-Bit ADC, Four Timers, SPI and SCI Interfaces, 44-Pin TQFP, Automotive; Note: Pins 2-6, 15-17 and 31 are External Interrupt (EI) pins.; Published: 26-May-2004; LatestRevisionDate: 13-Apr-2006; LatestRevisionNote: IPC-7351 Footprint Added.; DatasheetVersion: rev1.9, Aug-2003; PackageVersion: Oct-2003; PackageReference: TQFP44; Publisher: Altium Limited; PackageDescription: 44-Pin Thin Plastic Quad Flat Pack 0.8 mm Pitch; ComponentLink1Description: Manufacturer Link; ComponentLink1URL: http://www.st.com/; ComponentLink2Description: Datasheet; ComponentLink2URL: http://www.st.com/stonline/products/literature/ds/8336/st72324.pdf
footprint TQFP44_N (Thin QFP, 44-Leads, Body 10x10mm, Pitch 0.8mm, IPC Medium Density)
footprint TQFP44_L (Thin QFP, 44-Leads, Body 10x10mm, Pitch 0.8mm, IPC High Density)
footprint TQFP44_M (Thin QFP, 44-Leads, Body 10x10mm, Pitch 0.8mm, IPC Low Density)
3D model ST72324-TQFP44 (44-Pin Thin Plastic Quad Flat Pack 0.8 mm Pitch)
pins: 1 PE1/RDI (io), 2 PB0 (io), 3 PB1 (io), 4 PB2 (io), 5 PB3 (io), 6 PB4 (HS) (io), 7 PD0/AIN0 (io), 8 PD1/AIN1 (io), 9 PD2/AIN2 (io), 10 PD3/AIN3 (io), 11 PD4/AIN4 (io), 12 PD5/AIN5 (io), 13 VAREF (power), 14 VSSA (power), 15 PF0/AIN8/MCO (io), 16 PF1 (HS)/BEEP (io), 17 PF2 (HS) (io), 18 PF4/AIN10/OCMP1_A (io), 19 PF6 (HS)/ICAP1_A (io), 20 PF7 (HS)/EXTCLK_A (io), 21 VDD_0 (power), 22 VSS_0 (power), 23 PC0/OCMP2_B/AIN12 (io), 24 PC1/OCMP1_B/AIN13 (io), 25 PC2 (HS)/ICAP2_B (io), 26 PC3 (HS)/ICAP1_B (io), 27 PC4/MISO/ICCDATA (io), 28 PC5/MOSI/AIN14 (io), 29 PC6/SCK/ICCCLK (io), 30 PC7/~{SS}/AIN15 (io), 31 PA3 (HS) (io), 32 VDD_1 (power), 33 VSS_1 (power), 34 PA4 (HS) (io), 35 PA5 (HS) (io), 36 PA6 (HS) (io), 37 PA7 (HS) (io), 38 VPP/ICCSEL (in), 39 ~{RESET} (io), 40 VSS_2 (power), 41 OSC2 (out), 42 OSC1 (in), 43 VDD_2 (power), 44 PE0/TDO (io)

## ST72324J4TC
designator U?
8-Bit 16k ROM MCU with Nested Interrupts, 512b RAM, 10-Bit ADC, Four Timers, SPI and SCI Interfaces, 44-Pin TQFP, Automotive; Note: Pins 2-6, 15-17 and 31 are External Interrupt (EI) pins.; Published: 26-May-2004; LatestRevisionDate: 13-Apr-2006; LatestRevisionNote: IPC-7351 Footprint Added.; DatasheetVersion: rev1.9, Aug-2003; PackageVersion: Oct-2003; PackageReference: TQFP44; Publisher: Altium Limited; PackageDescription: 44-Pin Thin Plastic Quad Flat Pack 0.8 mm Pitch; ComponentLink1Description: Manufacturer Link; ComponentLink1URL: http://www.st.com/; ComponentLink2Description: Datasheet; ComponentLink2URL: http://www.st.com/stonline/products/literature/ds/8336/st72324.pdf
footprint TQFP44_N (Thin QFP, 44-Leads, Body 10x10mm, Pitch 0.8mm, IPC Medium Density)
footprint TQFP44_L (Thin QFP, 44-Leads, Body 10x10mm, Pitch 0.8mm, IPC High Density)
footprint TQFP44_M (Thin QFP, 44-Leads, Body 10x10mm, Pitch 0.8mm, IPC Low Density)
3D model ST72324-TQFP44 (44-Pin Thin Plastic Quad Flat Pack 0.8 mm Pitch)
pins: 1 PE1/RDI (io), 2 PB0 (io), 3 PB1 (io), 4 PB2 (io), 5 PB3 (io), 6 PB4 (HS) (io), 7 PD0/AIN0 (io), 8 PD1/AIN1 (io), 9 PD2/AIN2 (io), 10 PD3/AIN3 (io), 11 PD4/AIN4 (io), 12 PD5/AIN5 (io), 13 VAREF (power), 14 VSSA (power), 15 PF0/AIN8/MCO (io), 16 PF1 (HS)/BEEP (io), 17 PF2 (HS) (io), 18 PF4/AIN10/OCMP1_A (io), 19 PF6 (HS)/ICAP1_A (io), 20 PF7 (HS)/EXTCLK_A (io), 21 VDD_0 (power), 22 VSS_0 (power), 23 PC0/OCMP2_B/AIN12 (io), 24 PC1/OCMP1_B/AIN13 (io), 25 PC2 (HS)/ICAP2_B (io), 26 PC3 (HS)/ICAP1_B (io), 27 PC4/MISO/ICCDATA (io), 28 PC5/MOSI/AIN14 (io), 29 PC6/SCK/ICCCLK (io), 30 PC7/~{SS}/AIN15 (io), 31 PA3 (HS) (io), 32 VDD_1 (power), 33 VSS_1 (power), 34 PA4 (HS) (io), 35 PA5 (HS) (io), 36 PA6 (HS) (io), 37 PA7 (HS) (io), 38 VPP/ICCSEL (in), 39 ~{RESET} (io), 40 VSS_2 (power), 41 OSC2 (out), 42 OSC1 (in), 43 VDD_2 (power), 44 PE0/TDO (io)

## ST72324J6B1
designator U?
8-Bit 32k ROM MCU with Nested Interrupts, 1024b RAM, 10-Bit ADC, Four Timers, SPI and SCI Interfaces, 42-Pin PDIP, Standard; Note: Pins 1, 10-12, 24 and 39-42 are External Interrupt (EI) pins.; Published: 26-May-2004; LatestRevisionDate: 06-Jun-2005; LatestRevisionNote: Stylized 3D Model Added.; DatasheetVersion: rev1.9, Aug-2003; PackageVersion: Oct-2003; PackageReference: PSDIP42; Publisher: Altium Limited; PackageDescription: DIP, Plastic Shrink; 42 Leads; Row Spacing 15.24 mm; Pitch 1.78 mm; ComponentLink1Description: Manufacturer Link; ComponentLink1URL: http://www.st.com/; ComponentLink2Description: Datasheet; ComponentLink2URL: http://www.st.com/stonline/products/literature/ds/8336/st72324.pdf
footprint PSDIP42 (DIP, Plastic Shrink; 42 Leads; Row Spacing 15.24 mm; Pitch 1.78 mm)
3D model PSDIP42 (DIP, Plastic Shrink; 42 Leads; Row Spacing 15.24 mm; Pitch 1.78 mm)
pins: 1 PB4 (HS) (io), 2 PD0/AIN0 (io), 3 PD1/AIN1 (io), 4 PD2/AIN2 (io), 5 PD3/AIN3 (io), 6 PD4/AIN4 (io), 7 PD5/AIN5 (io), 8 VAREF (power), 9 VSSA (power), 10 PF0/AIN8/MCO (io), 11 PF1 (HS)/BEEP (io), 12 PF2 (HS) (io), 13 PF4/AIN10/OCMP1_A (io), 14 PF6 (HS)/ICAP1_A (io), 15 PF7 (HS)/EXTCLK_A (io), 16 PC0/OCMP2_B/AIN12 (io), 17 PC1/OCMP1_B/AIN13 (io), 18 PC2 (HS)/ICAP2_B (io), 19 PC3 (HS)/ICAP1_B (io), 20 PC4/MISO/ICCDATA (io), 21 PC5/MOSI/AIN14 (io), 22 PC6/SCK/ICCCLK (io), 23 PC7/~{SS}/AIN15 (io), 24 PA3 (HS) (io), 25 VDD_1 (power), 26 VSS_1 (power), 27 PA4 (HS) (io), 28 PA5 (HS) (io), 29 PA6 (HS) (io), 30 PA7 (HS) (io), 31 VPP/ICCSEL (in), 32 ~{RESET} (io), 33 VSS_2 (power), 34 OSC2 (out), 35 OSC1 (in), 36 VDD_2 (power), 37 PE0/TDO (io), 38 PE1/RDI (io), 39 PB0 (io), 40 PB1 (io), 41 PB2 (io), 42 PB3 (io)

## ST72324J6B5
designator U?
8-Bit 32k ROM MCU with Nested Interrupts, 1024b RAM, 10-Bit ADC, Four Timers, SPI and SCI Interfaces, 42-Pin PDIP, Standard; Note: Pins 1, 10-12, 24 and 39-42 are External Interrupt (EI) pins.; Published: 26-May-2004; LatestRevisionDate: 06-Jun-2005; LatestRevisionNote: Stylized 3D Model Added.; DatasheetVersion: rev1.9, Aug-2003; PackageVersion: Oct-2003; PackageReference: PSDIP42; Publisher: Altium Limited; PackageDescription: DIP, Plastic Shrink; 42 Leads; Row Spacing 15.24 mm; Pitch 1.78 mm; ComponentLink1Description: Manufacturer Link; ComponentLink1URL: http://www.st.com/; ComponentLink2Description: Datasheet; ComponentLink2URL: http://www.st.com/stonline/products/literature/ds/8336/st72324.pdf
footprint PSDIP42 (DIP, Plastic Shrink; 42 Leads; Row Spacing 15.24 mm; Pitch 1.78 mm)
3D model PSDIP42 (DIP, Plastic Shrink; 42 Leads; Row Spacing 15.24 mm; Pitch 1.78 mm)
pins: 1 PB4 (HS) (io), 2 PD0/AIN0 (io), 3 PD1/AIN1 (io), 4 PD2/AIN2 (io), 5 PD3/AIN3 (io), 6 PD4/AIN4 (io), 7 PD5/AIN5 (io), 8 VAREF (power), 9 VSSA (power), 10 PF0/AIN8/MCO (io), 11 PF1 (HS)/BEEP (io), 12 PF2 (HS) (io), 13 PF4/AIN10/OCMP1_A (io), 14 PF6 (HS)/ICAP1_A (io), 15 PF7 (HS)/EXTCLK_A (io), 16 PC0/OCMP2_B/AIN12 (io), 17 PC1/OCMP1_B/AIN13 (io), 18 PC2 (HS)/ICAP2_B (io), 19 PC3 (HS)/ICAP1_B (io), 20 PC4/MISO/ICCDATA (io), 21 PC5/MOSI/AIN14 (io), 22 PC6/SCK/ICCCLK (io), 23 PC7/~{SS}/AIN15 (io), 24 PA3 (HS) (io), 25 VDD_1 (power), 26 VSS_1 (power), 27 PA4 (HS) (io), 28 PA5 (HS) (io), 29 PA6 (HS) (io), 30 PA7 (HS) (io), 31 VPP/ICCSEL (in), 32 ~{RESET} (io), 33 VSS_2 (power), 34 OSC2 (out), 35 OSC1 (in), 36 VDD_2 (power), 37 PE0/TDO (io), 38 PE1/RDI (io), 39 PB0 (io), 40 PB1 (io), 41 PB2 (io), 42 PB3 (io)

## ST72324J6B6
designator U?
8-Bit 32k ROM MCU with Nested Interrupts, 1024b RAM, 10-Bit ADC, Four Timers, SPI and SCI Interfaces, 42-Pin PDIP, Standard; Note: Pins 1, 10-12, 24 and 39-42 are External Interrupt (EI) pins.; Published: 26-May-2004; LatestRevisionDate: 06-Jun-2005; LatestRevisionNote: Stylized 3D Model Added.; DatasheetVersion: rev1.9, Aug-2003; PackageVersion: Oct-2003; PackageReference: PSDIP42; Publisher: Altium Limited; PackageDescription: DIP, Plastic Shrink; 42 Leads; Row Spacing 15.24 mm; Pitch 1.78 mm; ComponentLink1Description: Manufacturer Link; ComponentLink1URL: http://www.st.com/; ComponentLink2Description: Datasheet; ComponentLink2URL: http://www.st.com/stonline/products/literature/ds/8336/st72324.pdf
footprint PSDIP42 (DIP, Plastic Shrink; 42 Leads; Row Spacing 15.24 mm; Pitch 1.78 mm)
3D model PSDIP42 (DIP, Plastic Shrink; 42 Leads; Row Spacing 15.24 mm; Pitch 1.78 mm)
pins: 1 PB4 (HS) (io), 2 PD0/AIN0 (io), 3 PD1/AIN1 (io), 4 PD2/AIN2 (io), 5 PD3/AIN3 (io), 6 PD4/AIN4 (io), 7 PD5/AIN5 (io), 8 VAREF (power), 9 VSSA (power), 10 PF0/AIN8/MCO (io), 11 PF1 (HS)/BEEP (io), 12 PF2 (HS) (io), 13 PF4/AIN10/OCMP1_A (io), 14 PF6 (HS)/ICAP1_A (io), 15 PF7 (HS)/EXTCLK_A (io), 16 PC0/OCMP2_B/AIN12 (io), 17 PC1/OCMP1_B/AIN13 (io), 18 PC2 (HS)/ICAP2_B (io), 19 PC3 (HS)/ICAP1_B (io), 20 PC4/MISO/ICCDATA (io), 21 PC5/MOSI/AIN14 (io), 22 PC6/SCK/ICCCLK (io), 23 PC7/~{SS}/AIN15 (io), 24 PA3 (HS) (io), 25 VDD_1 (power), 26 VSS_1 (power), 27 PA4 (HS) (io), 28 PA5 (HS) (io), 29 PA6 (HS) (io), 30 PA7 (HS) (io), 31 VPP/ICCSEL (in), 32 ~{RESET} (io), 33 VSS_2 (power), 34 OSC2 (out), 35 OSC1 (in), 36 VDD_2 (power), 37 PE0/TDO (io), 38 PE1/RDI (io), 39 PB0 (io), 40 PB1 (io), 41 PB2 (io), 42 PB3 (io)

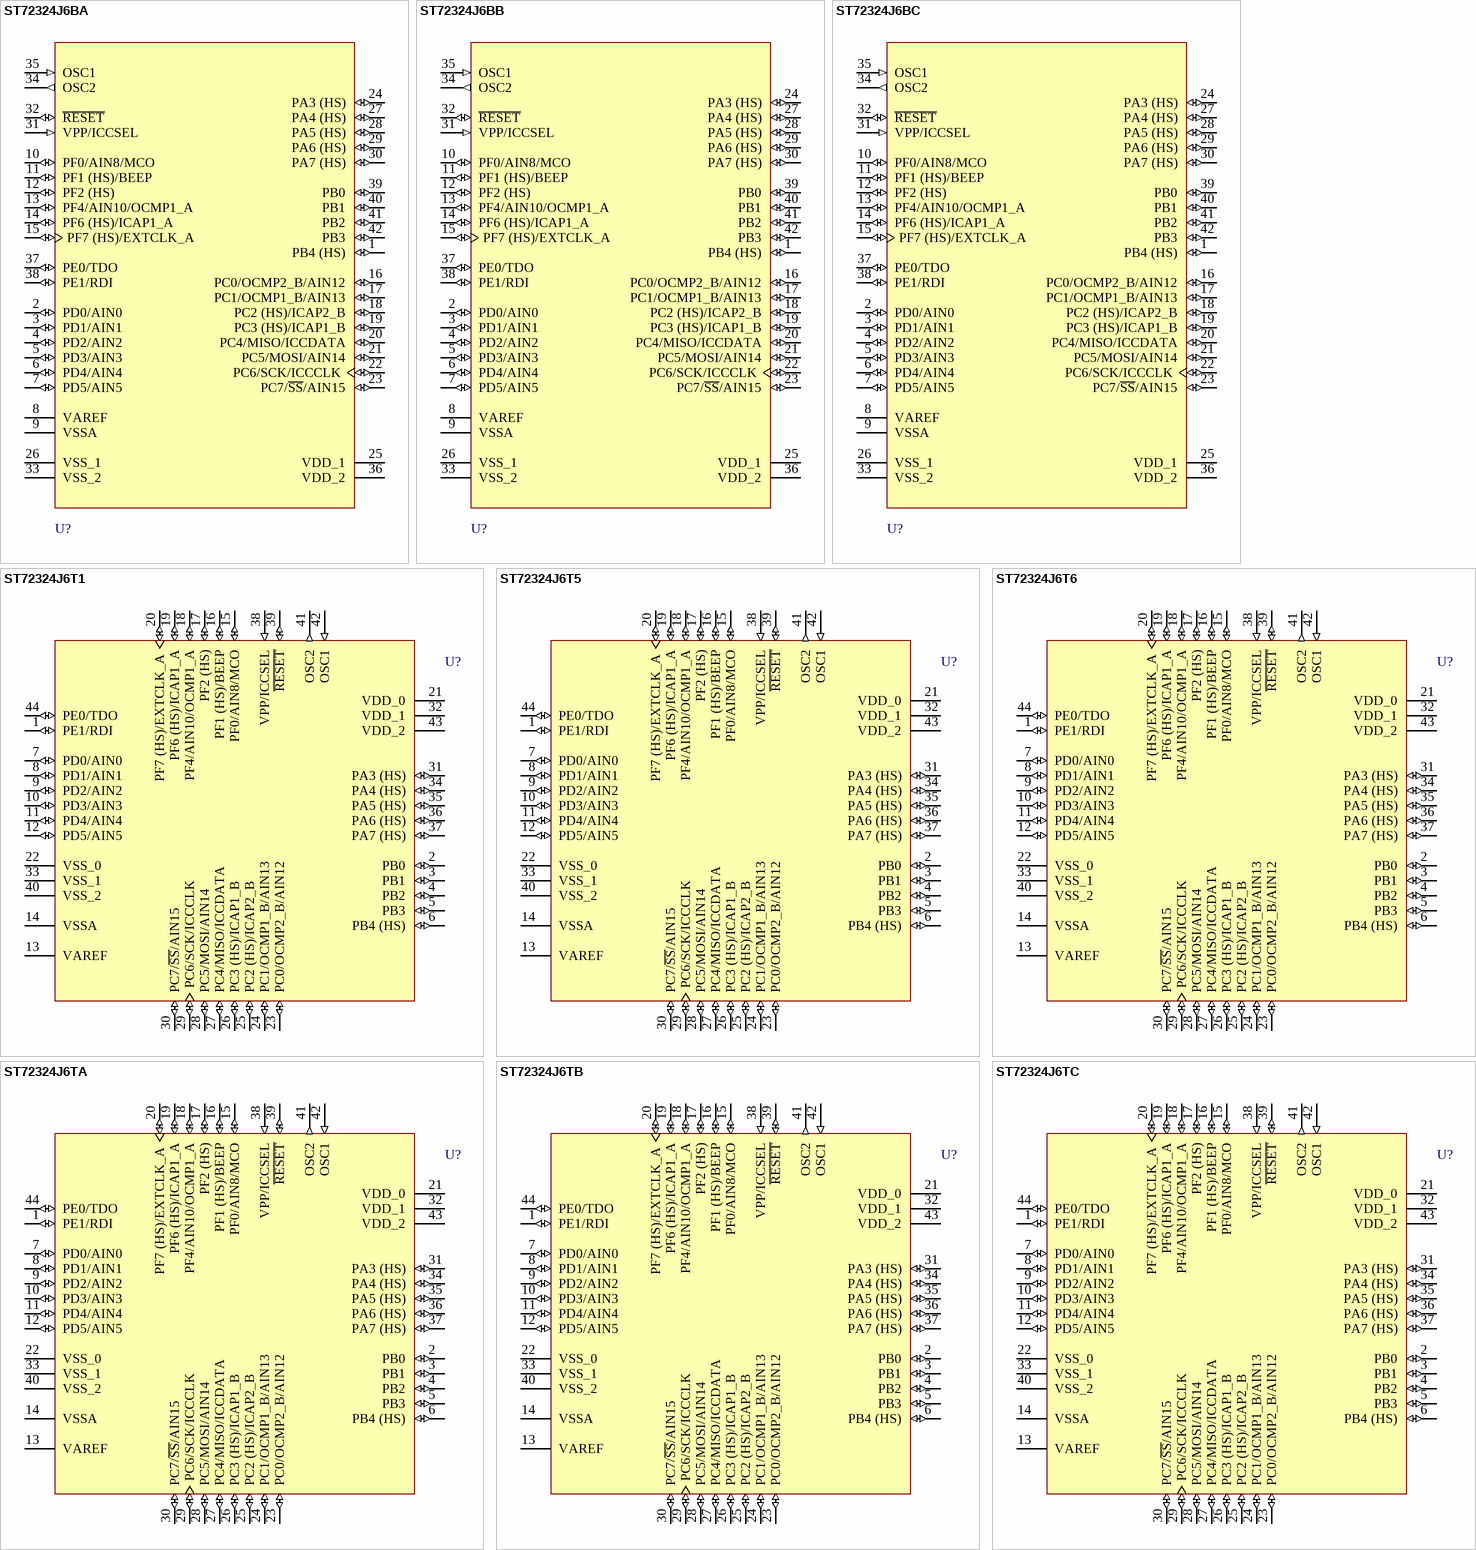
[diagram p139: symbols ST72324J6BA to ST72324J6TC]

## ST72324J6BA
designator U?
8-Bit 32k ROM MCU with Nested Interrupts, 1024b RAM, 10-Bit ADC, Four Timers, SPI and SCI Interfaces, 42-Pin PDIP, Automotive; Note: Pins 1, 10-12, 24 and 39-42 are External Interrupt (EI) pins.; Published: 26-May-2004; LatestRevisionDate: 06-Jun-2005; LatestRevisionNote: Stylized 3D Model Added.; DatasheetVersion: rev1.9, Aug-2003; PackageVersion: Oct-2003; PackageReference: PSDIP42; Publisher: Altium Limited; PackageDescription: DIP, Plastic Shrink; 42 Leads; Row Spacing 15.24 mm; Pitch 1.78 mm; ComponentLink1Description: Manufacturer Link; ComponentLink1URL: http://www.st.com/; ComponentLink2Description: Datasheet; ComponentLink2URL: http://www.st.com/stonline/products/literature/ds/8336/st72324.pdf
footprint PSDIP42 (DIP, Plastic Shrink; 42 Leads; Row Spacing 15.24 mm; Pitch 1.78 mm)
3D model PSDIP42 (DIP, Plastic Shrink; 42 Leads; Row Spacing 15.24 mm; Pitch 1.78 mm)
pins: 1 PB4 (HS) (io), 2 PD0/AIN0 (io), 3 PD1/AIN1 (io), 4 PD2/AIN2 (io), 5 PD3/AIN3 (io), 6 PD4/AIN4 (io), 7 PD5/AIN5 (io), 8 VAREF (power), 9 VSSA (power), 10 PF0/AIN8/MCO (io), 11 PF1 (HS)/BEEP (io), 12 PF2 (HS) (io), 13 PF4/AIN10/OCMP1_A (io), 14 PF6 (HS)/ICAP1_A (io), 15 PF7 (HS)/EXTCLK_A (io), 16 PC0/OCMP2_B/AIN12 (io), 17 PC1/OCMP1_B/AIN13 (io), 18 PC2 (HS)/ICAP2_B (io), 19 PC3 (HS)/ICAP1_B (io), 20 PC4/MISO/ICCDATA (io), 21 PC5/MOSI/AIN14 (io), 22 PC6/SCK/ICCCLK (io), 23 PC7/~{SS}/AIN15 (io), 24 PA3 (HS) (io), 25 VDD_1 (power), 26 VSS_1 (power), 27 PA4 (HS) (io), 28 PA5 (HS) (io), 29 PA6 (HS) (io), 30 PA7 (HS) (io), 31 VPP/ICCSEL (in), 32 ~{RESET} (io), 33 VSS_2 (power), 34 OSC2 (out), 35 OSC1 (in), 36 VDD_2 (power), 37 PE0/TDO (io), 38 PE1/RDI (io), 39 PB0 (io), 40 PB1 (io), 41 PB2 (io), 42 PB3 (io)

## ST72324J6BB
designator U?
8-Bit 32k ROM MCU with Nested Interrupts, 1024b RAM, 10-Bit ADC, Four Timers, SPI and SCI Interfaces, 42-Pin PDIP, Automotive; Note: Pins 1, 10-12, 24 and 39-42 are External Interrupt (EI) pins.; Published: 26-May-2004; LatestRevisionDate: 06-Jun-2005; LatestRevisionNote: Stylized 3D Model Added.; DatasheetVersion: rev1.9, Aug-2003; PackageVersion: Oct-2003; PackageReference: PSDIP42; Publisher: Altium Limited; PackageDescription: DIP, Plastic Shrink; 42 Leads; Row Spacing 15.24 mm; Pitch 1.78 mm; ComponentLink1Description: Manufacturer Link; ComponentLink1URL: http://www.st.com/; ComponentLink2Description: Datasheet; ComponentLink2URL: http://www.st.com/stonline/products/literature/ds/8336/st72324.pdf
footprint PSDIP42 (DIP, Plastic Shrink; 42 Leads; Row Spacing 15.24 mm; Pitch 1.78 mm)
3D model PSDIP42 (DIP, Plastic Shrink; 42 Leads; Row Spacing 15.24 mm; Pitch 1.78 mm)
pins: 1 PB4 (HS) (io), 2 PD0/AIN0 (io), 3 PD1/AIN1 (io), 4 PD2/AIN2 (io), 5 PD3/AIN3 (io), 6 PD4/AIN4 (io), 7 PD5/AIN5 (io), 8 VAREF (power), 9 VSSA (power), 10 PF0/AIN8/MCO (io), 11 PF1 (HS)/BEEP (io), 12 PF2 (HS) (io), 13 PF4/AIN10/OCMP1_A (io), 14 PF6 (HS)/ICAP1_A (io), 15 PF7 (HS)/EXTCLK_A (io), 16 PC0/OCMP2_B/AIN12 (io), 17 PC1/OCMP1_B/AIN13 (io), 18 PC2 (HS)/ICAP2_B (io), 19 PC3 (HS)/ICAP1_B (io), 20 PC4/MISO/ICCDATA (io), 21 PC5/MOSI/AIN14 (io), 22 PC6/SCK/ICCCLK (io), 23 PC7/~{SS}/AIN15 (io), 24 PA3 (HS) (io), 25 VDD_1 (power), 26 VSS_1 (power), 27 PA4 (HS) (io), 28 PA5 (HS) (io), 29 PA6 (HS) (io), 30 PA7 (HS) (io), 31 VPP/ICCSEL (in), 32 ~{RESET} (io), 33 VSS_2 (power), 34 OSC2 (out), 35 OSC1 (in), 36 VDD_2 (power), 37 PE0/TDO (io), 38 PE1/RDI (io), 39 PB0 (io), 40 PB1 (io), 41 PB2 (io), 42 PB3 (io)

## ST72324J6BC
designator U?
8-Bit 32k ROM MCU with Nested Interrupts, 1024b RAM, 10-Bit ADC, Four Timers, SPI and SCI Interfaces, 42-Pin PDIP, Automotive; Note: Pins 1, 10-12, 24 and 39-42 are External Interrupt (EI) pins.; Published: 26-May-2004; LatestRevisionDate: 06-Jun-2005; LatestRevisionNote: Stylized 3D Model Added.; DatasheetVersion: rev1.9, Aug-2003; PackageVersion: Oct-2003; PackageReference: PSDIP42; Publisher: Altium Limited; PackageDescription: DIP, Plastic Shrink; 42 Leads; Row Spacing 15.24 mm; Pitch 1.78 mm; ComponentLink1Description: Manufacturer Link; ComponentLink1URL: http://www.st.com/; ComponentLink2Description: Datasheet; ComponentLink2URL: http://www.st.com/stonline/products/literature/ds/8336/st72324.pdf
footprint PSDIP42 (DIP, Plastic Shrink; 42 Leads; Row Spacing 15.24 mm; Pitch 1.78 mm)
3D model PSDIP42 (DIP, Plastic Shrink; 42 Leads; Row Spacing 15.24 mm; Pitch 1.78 mm)
pins: 1 PB4 (HS) (io), 2 PD0/AIN0 (io), 3 PD1/AIN1 (io), 4 PD2/AIN2 (io), 5 PD3/AIN3 (io), 6 PD4/AIN4 (io), 7 PD5/AIN5 (io), 8 VAREF (power), 9 VSSA (power), 10 PF0/AIN8/MCO (io), 11 PF1 (HS)/BEEP (io), 12 PF2 (HS) (io), 13 PF4/AIN10/OCMP1_A (io), 14 PF6 (HS)/ICAP1_A (io), 15 PF7 (HS)/EXTCLK_A (io), 16 PC0/OCMP2_B/AIN12 (io), 17 PC1/OCMP1_B/AIN13 (io), 18 PC2 (HS)/ICAP2_B (io), 19 PC3 (HS)/ICAP1_B (io), 20 PC4/MISO/ICCDATA (io), 21 PC5/MOSI/AIN14 (io), 22 PC6/SCK/ICCCLK (io), 23 PC7/~{SS}/AIN15 (io), 24 PA3 (HS) (io), 25 VDD_1 (power), 26 VSS_1 (power), 27 PA4 (HS) (io), 28 PA5 (HS) (io), 29 PA6 (HS) (io), 30 PA7 (HS) (io), 31 VPP/ICCSEL (in), 32 ~{RESET} (io), 33 VSS_2 (power), 34 OSC2 (out), 35 OSC1 (in), 36 VDD_2 (power), 37 PE0/TDO (io), 38 PE1/RDI (io), 39 PB0 (io), 40 PB1 (io), 41 PB2 (io), 42 PB3 (io)

## ST72324J6T1
designator U?
8-Bit 32k ROM MCU with Nested Interrupts, 1024b RAM, 10-Bit ADC, Four Timers, SPI and SCI Interfaces, 44-Pin TQFP, Standard; Note: Pins 2-6, 15-17 and 31 are External Interrupt (EI) pins.; Published: 26-May-2004; LatestRevisionDate: 13-Apr-2006; LatestRevisionNote: IPC-7351 Footprint Added.; DatasheetVersion: rev1.9, Aug-2003; PackageVersion: Oct-2003; PackageReference: TQFP44; Publisher: Altium Limited; PackageDescription: 44-Pin Thin Plastic Quad Flat Pack 0.8 mm Pitch; ComponentLink1Description: Manufacturer Link; ComponentLink1URL: http://www.st.com/; ComponentLink2Description: Datasheet; ComponentLink2URL: http://www.st.com/stonline/products/literature/ds/8336/st72324.pdf
footprint TQFP44_N (Thin QFP, 44-Leads, Body 10x10mm, Pitch 0.8mm, IPC Medium Density)
footprint TQFP44_L (Thin QFP, 44-Leads, Body 10x10mm, Pitch 0.8mm, IPC High Density)
footprint TQFP44_M (Thin QFP, 44-Leads, Body 10x10mm, Pitch 0.8mm, IPC Low Density)
3D model ST72324-TQFP44 (44-Pin Thin Plastic Quad Flat Pack 0.8 mm Pitch)
pins: 1 PE1/RDI (io), 2 PB0 (io), 3 PB1 (io), 4 PB2 (io), 5 PB3 (io), 6 PB4 (HS) (io), 7 PD0/AIN0 (io), 8 PD1/AIN1 (io), 9 PD2/AIN2 (io), 10 PD3/AIN3 (io), 11 PD4/AIN4 (io), 12 PD5/AIN5 (io), 13 VAREF (power), 14 VSSA (power), 15 PF0/AIN8/MCO (io), 16 PF1 (HS)/BEEP (io), 17 PF2 (HS) (io), 18 PF4/AIN10/OCMP1_A (io), 19 PF6 (HS)/ICAP1_A (io), 20 PF7 (HS)/EXTCLK_A (io), 21 VDD_0 (power), 22 VSS_0 (power), 23 PC0/OCMP2_B/AIN12 (io), 24 PC1/OCMP1_B/AIN13 (io), 25 PC2 (HS)/ICAP2_B (io), 26 PC3 (HS)/ICAP1_B (io), 27 PC4/MISO/ICCDATA (io), 28 PC5/MOSI/AIN14 (io), 29 PC6/SCK/ICCCLK (io), 30 PC7/~{SS}/AIN15 (io), 31 PA3 (HS) (io), 32 VDD_1 (power), 33 VSS_1 (power), 34 PA4 (HS) (io), 35 PA5 (HS) (io), 36 PA6 (HS) (io), 37 PA7 (HS) (io), 38 VPP/ICCSEL (in), 39 ~{RESET} (io), 40 VSS_2 (power), 41 OSC2 (out), 42 OSC1 (in), 43 VDD_2 (power), 44 PE0/TDO (io)

## ST72324J6T5
designator U?
8-Bit 32k ROM MCU with Nested Interrupts, 1024b RAM, 10-Bit ADC, Four Timers, SPI and SCI Interfaces, 44-Pin TQFP, Standard; Note: Pins 2-6, 15-17 and 31 are External Interrupt (EI) pins.; Published: 26-May-2004; LatestRevisionDate: 13-Apr-2006; LatestRevisionNote: IPC-7351 Footprint Added.; DatasheetVersion: rev1.9, Aug-2003; PackageVersion: Oct-2003; PackageReference: TQFP44; Publisher: Altium Limited; PackageDescription: 44-Pin Thin Plastic Quad Flat Pack 0.8 mm Pitch; ComponentLink1Description: Manufacturer Link; ComponentLink1URL: http://www.st.com/; ComponentLink2Description: Datasheet; ComponentLink2URL: http://www.st.com/stonline/products/literature/ds/8336/st72324.pdf
footprint TQFP44_N (Thin QFP, 44-Leads, Body 10x10mm, Pitch 0.8mm, IPC Medium Density)
footprint TQFP44_L (Thin QFP, 44-Leads, Body 10x10mm, Pitch 0.8mm, IPC High Density)
footprint TQFP44_M (Thin QFP, 44-Leads, Body 10x10mm, Pitch 0.8mm, IPC Low Density)
3D model ST72324-TQFP44 (44-Pin Thin Plastic Quad Flat Pack 0.8 mm Pitch)
pins: 1 PE1/RDI (io), 2 PB0 (io), 3 PB1 (io), 4 PB2 (io), 5 PB3 (io), 6 PB4 (HS) (io), 7 PD0/AIN0 (io), 8 PD1/AIN1 (io), 9 PD2/AIN2 (io), 10 PD3/AIN3 (io), 11 PD4/AIN4 (io), 12 PD5/AIN5 (io), 13 VAREF (power), 14 VSSA (power), 15 PF0/AIN8/MCO (io), 16 PF1 (HS)/BEEP (io), 17 PF2 (HS) (io), 18 PF4/AIN10/OCMP1_A (io), 19 PF6 (HS)/ICAP1_A (io), 20 PF7 (HS)/EXTCLK_A (io), 21 VDD_0 (power), 22 VSS_0 (power), 23 PC0/OCMP2_B/AIN12 (io), 24 PC1/OCMP1_B/AIN13 (io), 25 PC2 (HS)/ICAP2_B (io), 26 PC3 (HS)/ICAP1_B (io), 27 PC4/MISO/ICCDATA (io), 28 PC5/MOSI/AIN14 (io), 29 PC6/SCK/ICCCLK (io), 30 PC7/~{SS}/AIN15 (io), 31 PA3 (HS) (io), 32 VDD_1 (power), 33 VSS_1 (power), 34 PA4 (HS) (io), 35 PA5 (HS) (io), 36 PA6 (HS) (io), 37 PA7 (HS) (io), 38 VPP/ICCSEL (in), 39 ~{RESET} (io), 40 VSS_2 (power), 41 OSC2 (out), 42 OSC1 (in), 43 VDD_2 (power), 44 PE0/TDO (io)

## ST72324J6T6
designator U?
8-Bit 32k ROM MCU with Nested Interrupts, 1024b RAM, 10-Bit ADC, Four Timers, SPI and SCI Interfaces, 44-Pin TQFP, Standard; Note: Pins 2-6, 15-17 and 31 are External Interrupt (EI) pins.; Published: 26-May-2004; LatestRevisionDate: 13-Apr-2006; LatestRevisionNote: IPC-7351 Footprint Added.; DatasheetVersion: rev1.9, Aug-2003; PackageVersion: Oct-2003; PackageReference: TQFP44; Publisher: Altium Limited; PackageDescription: 44-Pin Thin Plastic Quad Flat Pack 0.8 mm Pitch; ComponentLink1Description: Manufacturer Link; ComponentLink1URL: http://www.st.com/; ComponentLink2Description: Datasheet; ComponentLink2URL: http://www.st.com/stonline/products/literature/ds/8336/st72324.pdf
footprint TQFP44_N (Thin QFP, 44-Leads, Body 10x10mm, Pitch 0.8mm, IPC Medium Density)
footprint TQFP44_L (Thin QFP, 44-Leads, Body 10x10mm, Pitch 0.8mm, IPC High Density)
footprint TQFP44_M (Thin QFP, 44-Leads, Body 10x10mm, Pitch 0.8mm, IPC Low Density)
3D model ST72324-TQFP44 (44-Pin Thin Plastic Quad Flat Pack 0.8 mm Pitch)
pins: 1 PE1/RDI (io), 2 PB0 (io), 3 PB1 (io), 4 PB2 (io), 5 PB3 (io), 6 PB4 (HS) (io), 7 PD0/AIN0 (io), 8 PD1/AIN1 (io), 9 PD2/AIN2 (io), 10 PD3/AIN3 (io), 11 PD4/AIN4 (io), 12 PD5/AIN5 (io), 13 VAREF (power), 14 VSSA (power), 15 PF0/AIN8/MCO (io), 16 PF1 (HS)/BEEP (io), 17 PF2 (HS) (io), 18 PF4/AIN10/OCMP1_A (io), 19 PF6 (HS)/ICAP1_A (io), 20 PF7 (HS)/EXTCLK_A (io), 21 VDD_0 (power), 22 VSS_0 (power), 23 PC0/OCMP2_B/AIN12 (io), 24 PC1/OCMP1_B/AIN13 (io), 25 PC2 (HS)/ICAP2_B (io), 26 PC3 (HS)/ICAP1_B (io), 27 PC4/MISO/ICCDATA (io), 28 PC5/MOSI/AIN14 (io), 29 PC6/SCK/ICCCLK (io), 30 PC7/~{SS}/AIN15 (io), 31 PA3 (HS) (io), 32 VDD_1 (power), 33 VSS_1 (power), 34 PA4 (HS) (io), 35 PA5 (HS) (io), 36 PA6 (HS) (io), 37 PA7 (HS) (io), 38 VPP/ICCSEL (in), 39 ~{RESET} (io), 40 VSS_2 (power), 41 OSC2 (out), 42 OSC1 (in), 43 VDD_2 (power), 44 PE0/TDO (io)

## ST72324J6TA
designator U?
8-Bit 32k ROM MCU with Nested Interrupts, 1024b RAM, 10-Bit ADC, Four Timers, SPI and SCI Interfaces, 44-Pin TQFP, Automotive; Note: Pins 2-6, 15-17 and 31 are External Interrupt (EI) pins.; Published: 26-May-2004; LatestRevisionDate: 13-Apr-2006; LatestRevisionNote: IPC-7351 Footprint Added.; DatasheetVersion: rev1.9, Aug-2003; PackageVersion: Oct-2003; PackageReference: TQFP44; Publisher: Altium Limited; PackageDescription: 44-Pin Thin Plastic Quad Flat Pack 0.8 mm Pitch; ComponentLink1Description: Manufacturer Link; ComponentLink1URL: http://www.st.com/; ComponentLink2Description: Datasheet; ComponentLink2URL: http://www.st.com/stonline/products/literature/ds/8336/st72324.pdf
footprint TQFP44_N (Thin QFP, 44-Leads, Body 10x10mm, Pitch 0.8mm, IPC Medium Density)
footprint TQFP44_L (Thin QFP, 44-Leads, Body 10x10mm, Pitch 0.8mm, IPC High Density)
footprint TQFP44_M (Thin QFP, 44-Leads, Body 10x10mm, Pitch 0.8mm, IPC Low Density)
3D model ST72324-TQFP44 (44-Pin Thin Plastic Quad Flat Pack 0.8 mm Pitch)
pins: 1 PE1/RDI (io), 2 PB0 (io), 3 PB1 (io), 4 PB2 (io), 5 PB3 (io), 6 PB4 (HS) (io), 7 PD0/AIN0 (io), 8 PD1/AIN1 (io), 9 PD2/AIN2 (io), 10 PD3/AIN3 (io), 11 PD4/AIN4 (io), 12 PD5/AIN5 (io), 13 VAREF (power), 14 VSSA (power), 15 PF0/AIN8/MCO (io), 16 PF1 (HS)/BEEP (io), 17 PF2 (HS) (io), 18 PF4/AIN10/OCMP1_A (io), 19 PF6 (HS)/ICAP1_A (io), 20 PF7 (HS)/EXTCLK_A (io), 21 VDD_0 (power), 22 VSS_0 (power), 23 PC0/OCMP2_B/AIN12 (io), 24 PC1/OCMP1_B/AIN13 (io), 25 PC2 (HS)/ICAP2_B (io), 26 PC3 (HS)/ICAP1_B (io), 27 PC4/MISO/ICCDATA (io), 28 PC5/MOSI/AIN14 (io), 29 PC6/SCK/ICCCLK (io), 30 PC7/~{SS}/AIN15 (io), 31 PA3 (HS) (io), 32 VDD_1 (power), 33 VSS_1 (power), 34 PA4 (HS) (io), 35 PA5 (HS) (io), 36 PA6 (HS) (io), 37 PA7 (HS) (io), 38 VPP/ICCSEL (in), 39 ~{RESET} (io), 40 VSS_2 (power), 41 OSC2 (out), 42 OSC1 (in), 43 VDD_2 (power), 44 PE0/TDO (io)

## ST72324J6TB
designator U?
8-Bit 32k ROM MCU with Nested Interrupts, 1024b RAM, 10-Bit ADC, Four Timers, SPI and SCI Interfaces, 44-Pin TQFP, Automotive; Note: Pins 2-6, 15-17 and 31 are External Interrupt (EI) pins.; Published: 26-May-2004; LatestRevisionDate: 13-Apr-2006; LatestRevisionNote: IPC-7351 Footprint Added.; DatasheetVersion: rev1.9, Aug-2003; PackageVersion: Oct-2003; PackageReference: TQFP44; Publisher: Altium Limited; PackageDescription: 44-Pin Thin Plastic Quad Flat Pack 0.8 mm Pitch; ComponentLink1Description: Manufacturer Link; ComponentLink1URL: http://www.st.com/; ComponentLink2Description: Datasheet; ComponentLink2URL: http://www.st.com/stonline/products/literature/ds/8336/st72324.pdf
footprint TQFP44_N (Thin QFP, 44-Leads, Body 10x10mm, Pitch 0.8mm, IPC Medium Density)
footprint TQFP44_L (Thin QFP, 44-Leads, Body 10x10mm, Pitch 0.8mm, IPC High Density)
footprint TQFP44_M (Thin QFP, 44-Leads, Body 10x10mm, Pitch 0.8mm, IPC Low Density)
3D model ST72324-TQFP44 (44-Pin Thin Plastic Quad Flat Pack 0.8 mm Pitch)
pins: 1 PE1/RDI (io), 2 PB0 (io), 3 PB1 (io), 4 PB2 (io), 5 PB3 (io), 6 PB4 (HS) (io), 7 PD0/AIN0 (io), 8 PD1/AIN1 (io), 9 PD2/AIN2 (io), 10 PD3/AIN3 (io), 11 PD4/AIN4 (io), 12 PD5/AIN5 (io), 13 VAREF (power), 14 VSSA (power), 15 PF0/AIN8/MCO (io), 16 PF1 (HS)/BEEP (io), 17 PF2 (HS) (io), 18 PF4/AIN10/OCMP1_A (io), 19 PF6 (HS)/ICAP1_A (io), 20 PF7 (HS)/EXTCLK_A (io), 21 VDD_0 (power), 22 VSS_0 (power), 23 PC0/OCMP2_B/AIN12 (io), 24 PC1/OCMP1_B/AIN13 (io), 25 PC2 (HS)/ICAP2_B (io), 26 PC3 (HS)/ICAP1_B (io), 27 PC4/MISO/ICCDATA (io), 28 PC5/MOSI/AIN14 (io), 29 PC6/SCK/ICCCLK (io), 30 PC7/~{SS}/AIN15 (io), 31 PA3 (HS) (io), 32 VDD_1 (power), 33 VSS_1 (power), 34 PA4 (HS) (io), 35 PA5 (HS) (io), 36 PA6 (HS) (io), 37 PA7 (HS) (io), 38 VPP/ICCSEL (in), 39 ~{RESET} (io), 40 VSS_2 (power), 41 OSC2 (out), 42 OSC1 (in), 43 VDD_2 (power), 44 PE0/TDO (io)